# Altium schematic symbol library Interface.SchLib: 114 symbols (part 1 of 2)
Pins are listed as number, name and electrical type; pins without a type are passive.

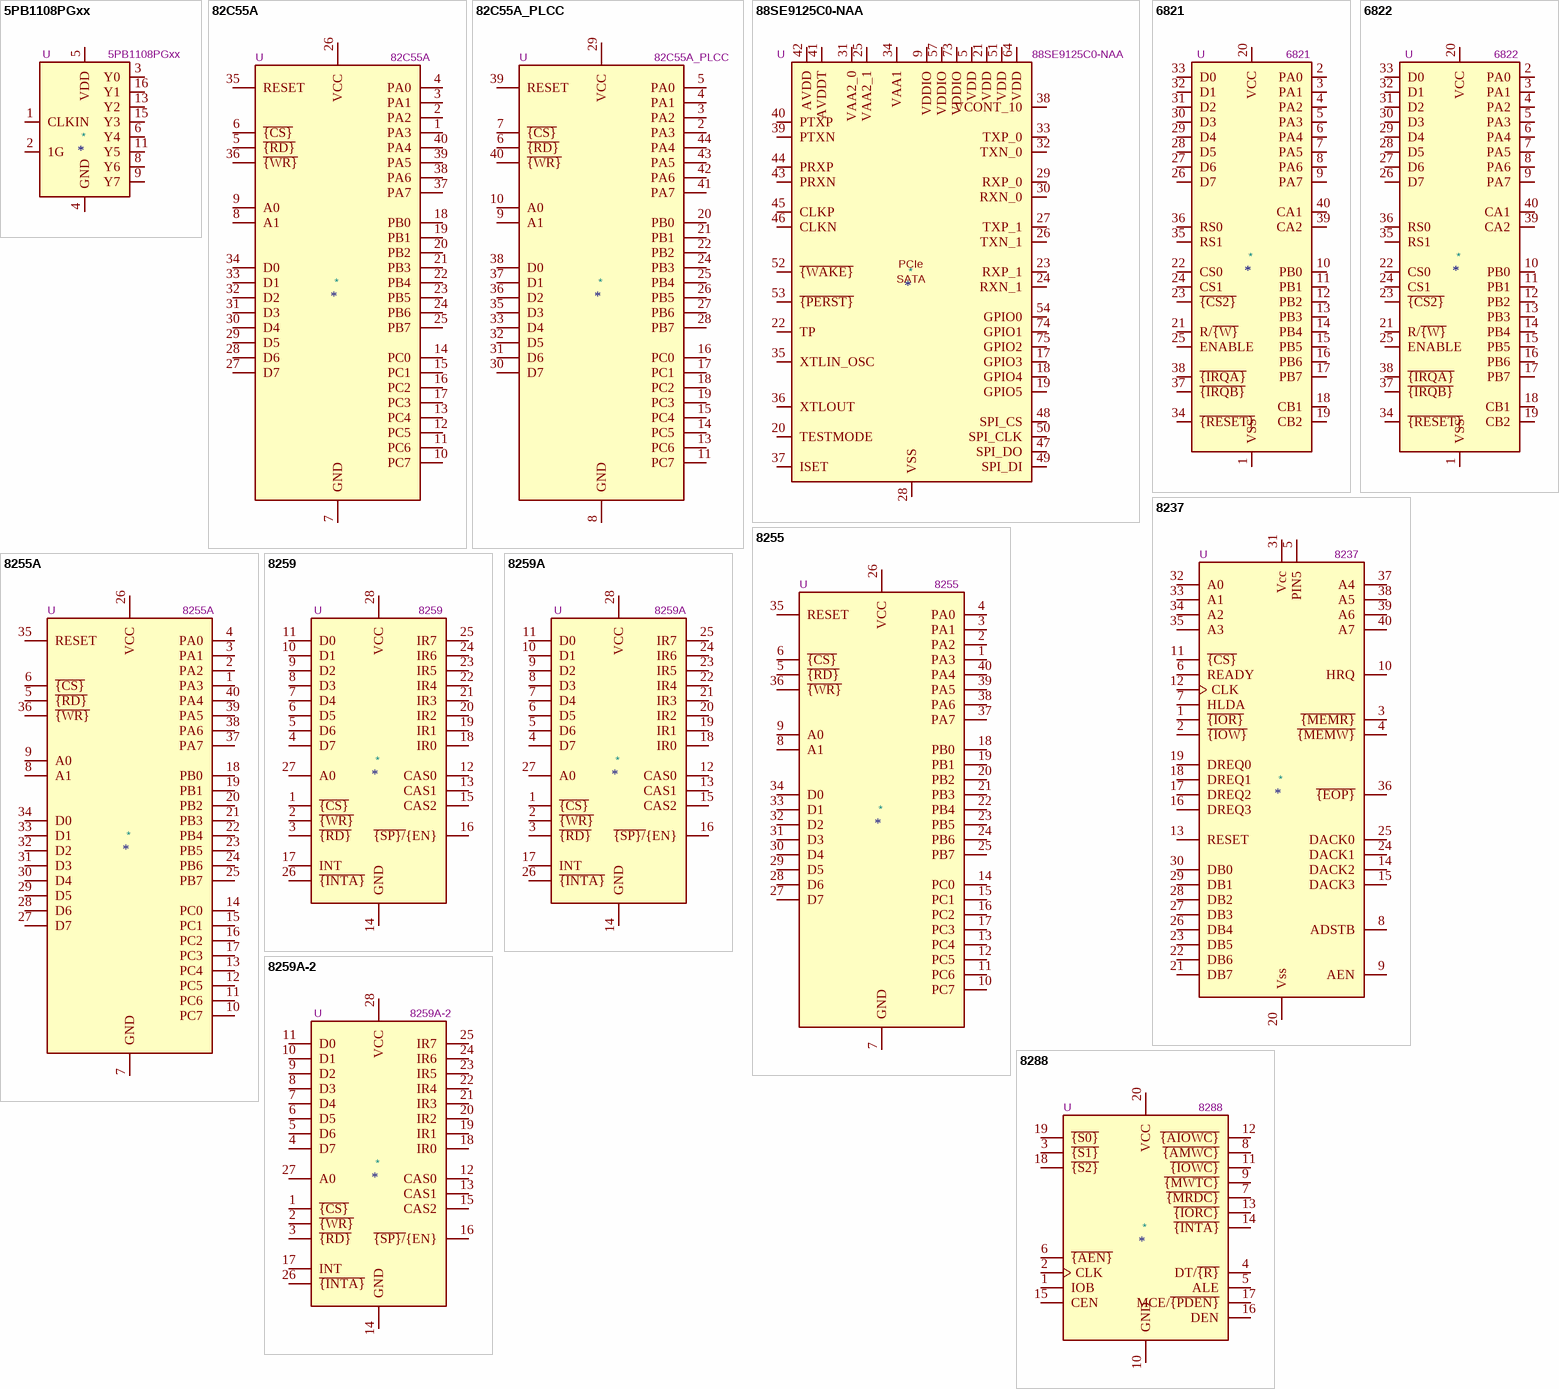
[diagram p0: symbols 5PB1108PGxx to 8288]

## 5PB1108PGxx
designator *  value 5PB1108PGxx  Reference: U
ki_keywords: clock buffer lvcmos; ki_description: 1:8 LVCMOS High-Performance Clock Buffer, 1.8V to 3.3V, TSSOP-16; ki_fp_filters: TSSOP*4.4x5mm*P0.65mm*; Footprint: Package_SO:TSSOP-16_4.4x5mm_P0.65mm; Datasheet: https://www.idt.com/document/dst/5pb11xx-datasheet
pins: 1 CLKIN, 2 1G, 3 Y0, 4 GND, 5 VDD, 6 Y4, 7 GND hidden, 8 Y6, 9 Y7, 10 VDD hidden, 11 Y5, 12 GND hidden, 13 Y2, 14 VDD hidden, 15 Y3, 16 Y1

## 82C55A
designator *  value 82C55A  Reference: U
ki_keywords: 8255 PPI; ki_description: CHMOS Programmable Peripheral Interface, PDIP-40; ki_fp_filters: DIP*W15.24mm* PDIP*W15.24mm*; Footprint: Package_DIP:DIP-40_W15.24mm; Datasheet: http://jap.hu/electronic/8255.pdf
pins: 1 PA3, 2 PA2, 3 PA1, 4 PA0, 5 ~{{RD}}, 6 ~{{CS}}, 7 GND, 8 A1, 9 A0, 10 PC7, 11 PC6, 12 PC5, 13 PC4, 14 PC0, 15 PC1, 16 PC2, 17 PC3, 18 PB0, 19 PB1, 20 PB2, 21 PB3, 22 PB4, 23 PB5, 24 PB6, 25 PB7, 26 VCC, 27 D7, 28 D6, 29 D5, 30 D4, 31 D3, 32 D2, 33 D1, 34 D0, 35 RESET, 36 ~{{WR}}, 37 PA7, 38 PA6, 39 PA5, 40 PA4

## 82C55A_PLCC
designator *  value 82C55A_PLCC  Reference: U
ki_keywords: 8255 PPI; ki_description: CHMOS Programmable Peripheral Interface, PLCC-44; ki_fp_filters: *PLCC?44*; Footprint: Package_LCC:PLCC-44; Datasheet: http://jap.hu/electronic/8255.pdf
pins: 1 NC hidden, 2 PA3, 3 PA2, 4 PA1, 5 PA0, 6 ~{{RD}}, 7 ~{{CS}}, 8 GND, 9 A1, 10 A0, 11 PC7, 12 NC hidden, 13 PC6, 14 PC5, 15 PC4, 16 PC0, 17 PC1, 18 PC2, 19 PC3, 20 PB0, 21 PB1, 22 PB2, 23 NC hidden, 24 PB3, 25 PB4, 26 PB5, 27 PB6, 28 PB7, 29 VCC, 30 D7, 31 D6, 32 D5, 33 D4, 34 NC hidden, 35 D3, 36 D2, 37 D1, 38 D0, 39 RESET, 40 ~{{WR}}, 41 PA7, 42 PA6, 43 PA5, 44 PA4

## 88SE9125C0-NAA
designator *  value 88SE9125C0-NAA  Reference: U
ki_keywords: PCIe2.0 SATA3.0; ki_description: One-Lane PCIe SATA Two-Ports Controller, QFN-76; ki_fp_filters: QFN*1EP*9x9mm*P0.4mm*; Footprint: Package_DFN_QFN:QFN-76-1EP_9x9mm_P0.4mm_EP3.8x3.8mm; Datasheet: https://www.marvell.com/documents/bqcwxsoiqfjkcjdjhkvc/
pins: 1 NC hidden, 2 NC hidden, 3 NC hidden, 4 NC hidden, 5 VDD, 6 NC hidden, 7 NC hidden, 8 NC hidden, 9 VDDIO, 10 NC hidden, 11 NC hidden, 12 NC hidden, 13 VDD hidden, 14 NC hidden, 15 NC hidden, 16 NC hidden, 17 GPIO3, 18 GPIO4, 19 GPIO5, 20 TESTMODE, 21 VDD, 22 TP, 23 RXP_1, 24 RXN_1, 25 VAA2_1, 26 TXN_1, 27 TXP_1, 28 VSS, 29 RXP_0, 30 RXN_0, 31 VAA2_0, 32 TXN_0, 33 TXP_0, 34 VAA1, 35 XTLIN_OSC, 36 XTLOUT, 37 ISET, 38 VCONT_10, 39 PTXN, 40 PTXP, 41 AVDDT, 42 AVDD, 43 PRXN, 44 PRXP, 45 CLKP, 46 CLKN, 47 SPI_DO, 48 SPI_CS, 49 SPI_DI, 50 SPI_CLK, 51 VDD, 52 ~{{WAKE}}, 53 ~{{PERST}}, 54 GPIO0, 55 NC hidden, 56 NC hidden, 57 VDDIO, 58 NC hidden, 59 NC hidden, 60 NC hidden, 61 NC hidden, 62 NC hidden, 63 NC hidden, 64 VDD, 65 NC hidden, 66 NC hidden, 67 NC hidden, 68 NC hidden, 69 NC hidden, 70 NC hidden, 71 VDD hidden, 72 NC hidden, 73 VDDIO, 74 GPIO1, 75 GPIO2, 76 NC hidden, 77 VSS hidden
text: PCIe; SATA

## 6821
designator *  value 6821  Reference: U
ki_keywords: PIA; ki_description: Peripheral Interface Adapter 1MHz, DIP-40; ki_fp_filters: DIP*W15.24mm*; Footprint: Package_DIP:DIP-40_W15.24mm; Datasheet: http://pdf.datasheetcatalog.com/datasheet/motorola/6821.pdf
pins: 1 VSS, 2 PA0, 3 PA1, 4 PA2, 5 PA3, 6 PA4, 7 PA5, 8 PA6, 9 PA7, 10 PB0, 11 PB1, 12 PB2, 13 PB3, 14 PB4, 15 PB5, 16 PB6, 17 PB7, 18 CB1, 19 CB2, 20 VCC, 21 R/~{{W}}, 22 CS0, 23 ~{{CS2}}, 24 CS1, 25 ENABLE, 26 D7, 27 D6, 28 D5, 29 D4, 30 D3, 31 D2, 32 D1, 33 D0, 34 ~{{RESET}}, 35 RS1, 36 RS0, 37 ~{{IRQB}}, 38 ~{{IRQA}}, 39 CA2, 40 CA1

## 6822
designator *  value 6822  Reference: U
ki_keywords: PIA; ki_description: Peripheral Interface Adapter 1MHz, DIP-40; ki_fp_filters: DIP*W15.24mm*; Footprint: Package_DIP:DIP-40_W15.24mm; Datasheet: http://pdf1.alldatasheet.com/datasheet-pdf/view/135452/MOTOROLA/MC6822.html
pins: 1 VSS, 2 PA0, 3 PA1, 4 PA2, 5 PA3, 6 PA4, 7 PA5, 8 PA6, 9 PA7, 10 PB0, 11 PB1, 12 PB2, 13 PB3, 14 PB4, 15 PB5, 16 PB6, 17 PB7, 18 CB1, 19 CB2, 20 VCC, 21 R/~{{W}}, 22 CS0, 23 ~{{CS2}}, 24 CS1, 25 ENABLE, 26 D7, 27 D6, 28 D5, 29 D4, 30 D3, 31 D2, 32 D1, 33 D0, 34 ~{{RESET}}, 35 RS1, 36 RS0, 37 ~{{IRQB}}, 38 ~{{IRQA}}, 39 CA2, 40 CA1

## 8237
designator *  value 8237  Reference: U
ki_keywords: 8237 DMA; ki_description: Programmable DMA Controller, PDIP-40; ki_fp_filters: DIP*W15.24mm* PDIP*W15.24mm*; Footprint: Package_DIP:DIP-40_W15.24mm; Datasheet: https://pdos.csail.mit.edu/6.828/2012/readings/hardware/8237A.pdf
pins: 1 ~{{IOR}}, 2 ~{{IOW}}, 3 ~{{MEMR}}, 4 ~{{MEMW}}, 5 PIN5, 6 READY, 7 HLDA, 8 ADSTB, 9 AEN, 10 HRQ, 11 ~{{CS}}, 12 CLK, 13 RESET, 14 DACK2, 15 DACK3, 16 DREQ3, 17 DREQ2, 18 DREQ1, 19 DREQ0, 20 Vss, 21 DB7, 22 DB6, 23 DB5, 24 DACK1, 25 DACK0, 26 DB4, 27 DB3, 28 DB2, 29 DB1, 30 DB0, 31 Vcc, 32 A0, 33 A1, 34 A2, 35 A3, 36 ~{{EOP}}, 37 A4, 38 A5, 39 A6, 40 A7

## 8255
designator *  value 8255  Reference: U
ki_keywords: 8255 PPI; ki_description: Programmable Peripheral Interface, PDIP-40; ki_fp_filters: DIP*W15.24mm* PDIP*W15.24mm*; Footprint: Package_DIP:DIP-40_W15.24mm; Datasheet: http://aturing.umcs.maine.edu/~meadow/courses/cos335/Intel8255A.pdf
pins: 1 PA3, 2 PA2, 3 PA1, 4 PA0, 5 ~{{RD}}, 6 ~{{CS}}, 7 GND, 8 A1, 9 A0, 10 PC7, 11 PC6, 12 PC5, 13 PC4, 14 PC0, 15 PC1, 16 PC2, 17 PC3, 18 PB0, 19 PB1, 20 PB2, 21 PB3, 22 PB4, 23 PB5, 24 PB6, 25 PB7, 26 VCC, 27 D7, 28 D6, 29 D5, 30 D4, 31 D3, 32 D2, 33 D1, 34 D0, 35 RESET, 36 ~{{WR}}, 37 PA7, 38 PA6, 39 PA5, 40 PA4

## 8255A
designator *  value 8255A  Reference: U
ki_keywords: 8255 PPI; ki_description: Programmable Peripheral Interface, PDIP-40; ki_fp_filters: DIP*W15.24mm* PDIP*W15.24mm*; Footprint: Package_DIP:DIP-40_W15.24mm; Datasheet: http://aturing.umcs.maine.edu/~meadow/courses/cos335/Intel8255A.pdf
pins: 1 PA3, 2 PA2, 3 PA1, 4 PA0, 5 ~{{RD}}, 6 ~{{CS}}, 7 GND, 8 A1, 9 A0, 10 PC7, 11 PC6, 12 PC5, 13 PC4, 14 PC0, 15 PC1, 16 PC2, 17 PC3, 18 PB0, 19 PB1, 20 PB2, 21 PB3, 22 PB4, 23 PB5, 24 PB6, 25 PB7, 26 VCC, 27 D7, 28 D6, 29 D5, 30 D4, 31 D3, 32 D2, 33 D1, 34 D0, 35 RESET, 36 ~{{WR}}, 37 PA7, 38 PA6, 39 PA5, 40 PA4

## 8259
designator *  value 8259  Reference: U
ki_keywords: PIC; ki_description: 8259, Programmable Interrupt Controller, PDIP-28; ki_fp_filters: DIP*W15.24mm*; Footprint: Package_DIP:DIP-28_W15.24mm; Datasheet: http://pdos.csail.mit.edu/6.828/2005/readings/hardware/8259A.pdf
pins: 1 ~{{CS}}, 2 ~{{WR}}, 3 ~{{RD}}, 4 D7, 5 D6, 6 D5, 7 D4, 8 D3, 9 D2, 10 D1, 11 D0, 12 CAS0, 13 CAS1, 14 GND, 15 CAS2, 16 ~{{SP}/}{EN}, 17 INT, 18 IR0, 19 IR1, 20 IR2, 21 IR3, 22 IR4, 23 IR5, 24 IR6, 25 IR7, 26 ~{{INTA}}, 27 A0, 28 VCC

## 8259A
designator *  value 8259A  Reference: U
ki_keywords: PIC; ki_description: 8259, Programmable Interrupt Controller, PDIP-28; ki_fp_filters: DIP*W15.24mm*; Footprint: Package_DIP:DIP-28_W15.24mm; Datasheet: http://pdos.csail.mit.edu/6.828/2005/readings/hardware/8259A.pdf
pins: 1 ~{{CS}}, 2 ~{{WR}}, 3 ~{{RD}}, 4 D7, 5 D6, 6 D5, 7 D4, 8 D3, 9 D2, 10 D1, 11 D0, 12 CAS0, 13 CAS1, 14 GND, 15 CAS2, 16 ~{{SP}/}{EN}, 17 INT, 18 IR0, 19 IR1, 20 IR2, 21 IR3, 22 IR4, 23 IR5, 24 IR6, 25 IR7, 26 ~{{INTA}}, 27 A0, 28 VCC

## 8259A-2
designator *  value 8259A-2  Reference: U
ki_keywords: PIC; ki_description: 8259, Programmable Interrupt Controller, PDIP-28; ki_fp_filters: DIP*W15.24mm*; Footprint: Package_DIP:DIP-28_W15.24mm; Datasheet: http://pdos.csail.mit.edu/6.828/2005/readings/hardware/8259A.pdf
pins: 1 ~{{CS}}, 2 ~{{WR}}, 3 ~{{RD}}, 4 D7, 5 D6, 6 D5, 7 D4, 8 D3, 9 D2, 10 D1, 11 D0, 12 CAS0, 13 CAS1, 14 GND, 15 CAS2, 16 ~{{SP}/}{EN}, 17 INT, 18 IR0, 19 IR1, 20 IR2, 21 IR3, 22 IR4, 23 IR5, 24 IR6, 25 IR7, 26 ~{{INTA}}, 27 A0, 28 VCC

## 8288
designator *  value 8288  Reference: U
ki_keywords: Bus Controller; ki_description: Bus Controller for Intel 8086/8088/80186/80188 microprocessors, DIP-20; ki_fp_filters: DIP*W7.62mm*; Footprint: Package_DIP:DIP-20_W7.62mm; Datasheet: http://www.datasheets360.com/pdf/7208679415653955300
pins: 1 IOB, 2 CLK, 3 ~{{S1}}, 4 DT/~{{R}}, 5 ALE, 6 ~{{AEN}}, 7 ~{{MRDC}}, 8 ~{{AMWC}}, 9 ~{{MWTC}}, 10 GND, 11 ~{{IOWC}}, 12 ~{{AIOWC}}, 13 ~{{IORC}}, 14 ~{{INTA}}, 15 CEN, 16 DEN, 17 MCE/~{{PDEN}}, 18 ~{{S2}}, 19 ~{{S0}}, 20 VCC

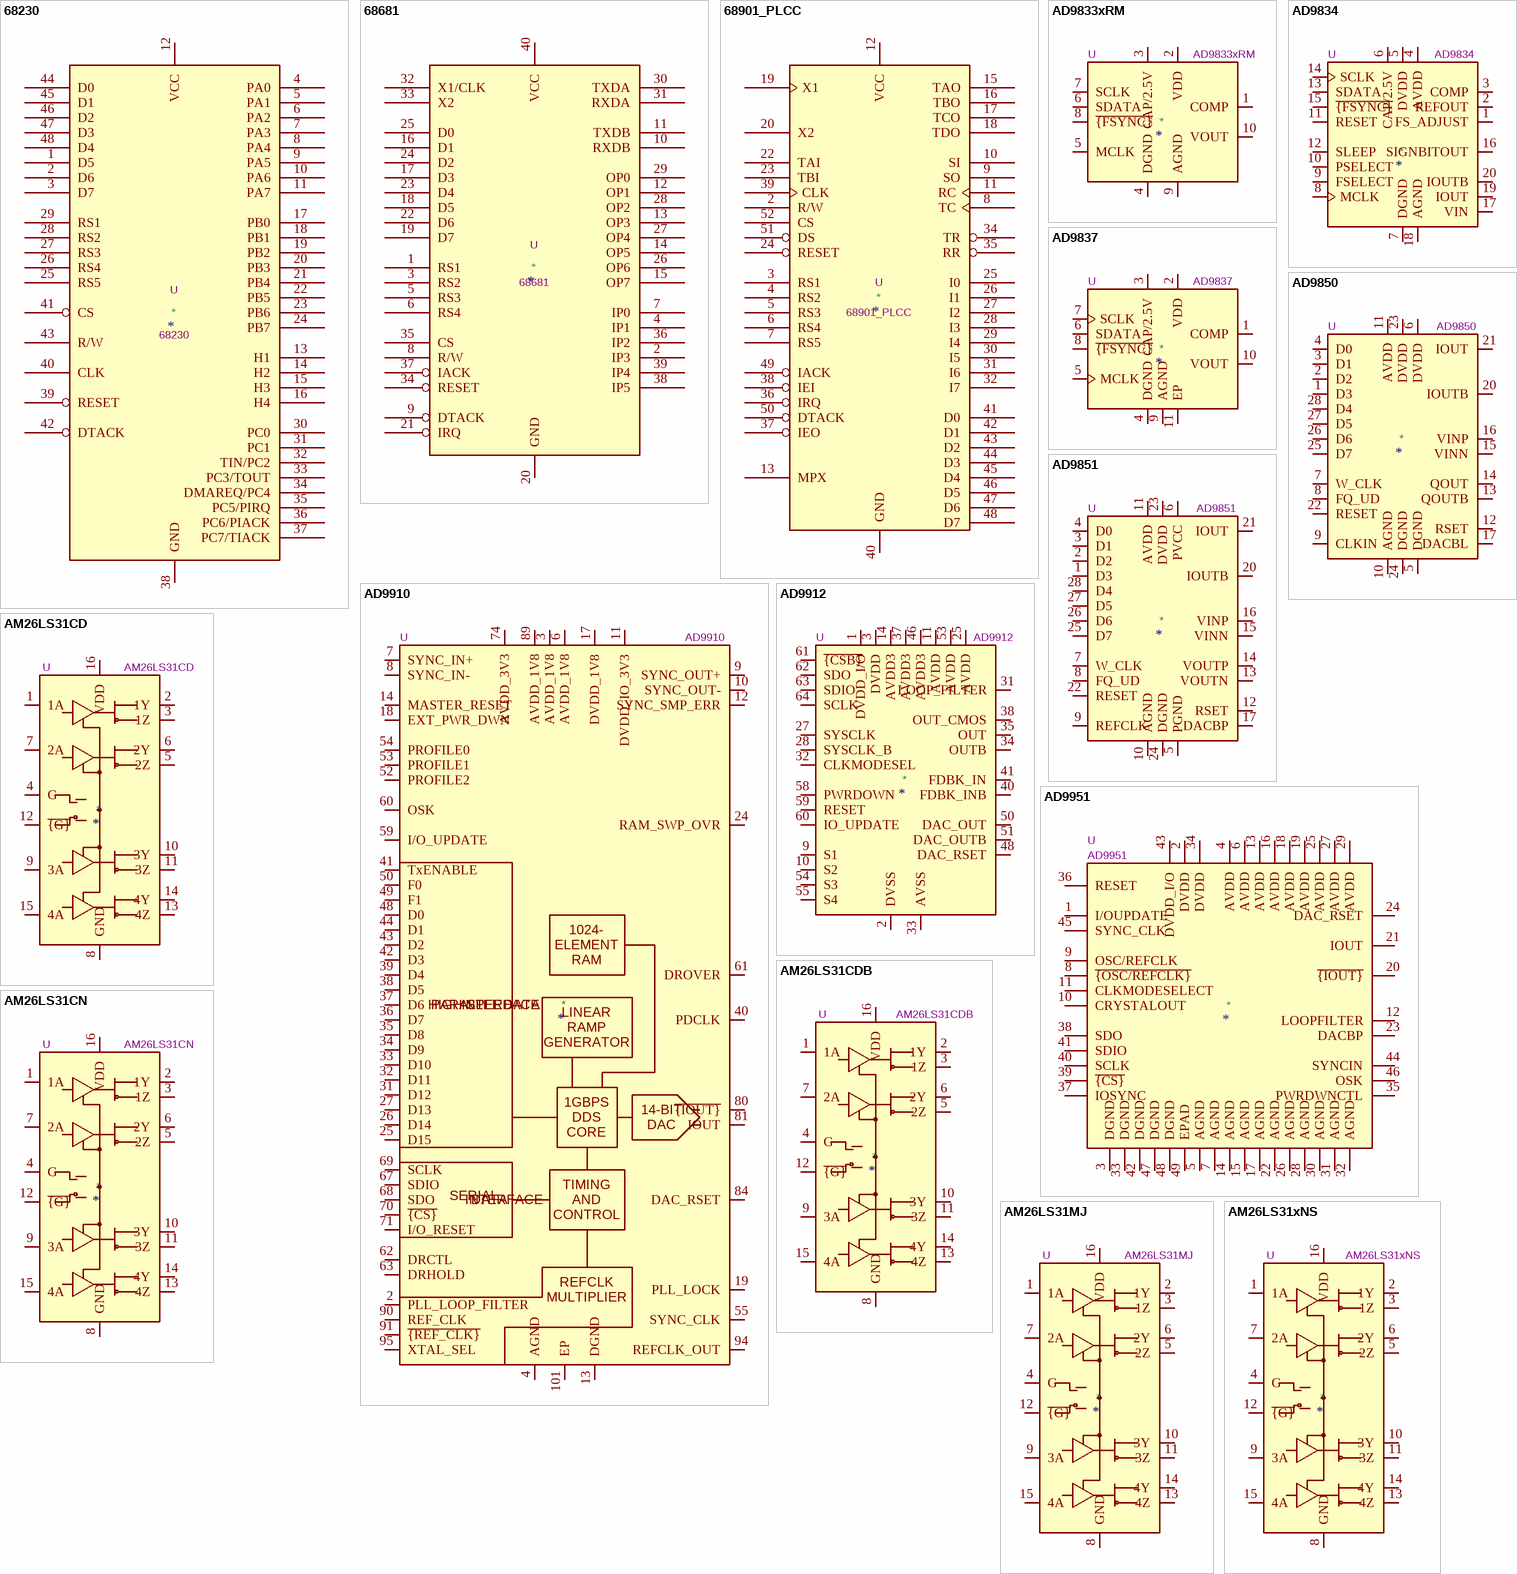
[diagram p1: symbols 68230 to AM26LS31xNS]

## 68230
designator *  value 68230  Reference: U
ki_keywords: MPRO; ki_description: PIT Interface parallele et Timer
pins: 1 D5, 2 D6, 3 D7, 4 PA0, 5 PA1, 6 PA2, 7 PA3, 8 PA4, 9 PA5, 10 PA6, 11 PA7, 12 VCC, 13 H1, 14 H2, 15 H3, 16 H4, 17 PB0, 18 PB1, 19 PB2, 20 PB3, 21 PB4, 22 PB5, 23 PB6, 24 PB7, 25 RS5, 26 RS4, 27 RS3, 28 RS2, 29 RS1, 30 PC0, 31 PC1, 32 TIN/PC2, 33 PC3/TOUT, 34 DMAREQ/PC4, 35 PC5/PIRQ, 36 PC6/PIACK, 37 PC7/TIACK, 38 GND, 39 RESET, 40 CLK, 41 CS, 42 DTACK, 43 R/W, 44 D0, 45 D1, 46 D2, 47 D3, 48 D4

## 68681
designator *  value 68681  Reference: U
ki_keywords: MPRO; ki_description: Interface serie 2 voies + 1 port parallele
pins: 1 RS1, 2 IP3, 3 RS2, 4 IP1, 5 RS3, 6 RS4, 7 IP0, 8 R/W, 9 DTACK, 10 RXDB, 11 TXDB, 12 OP1, 13 OP3, 14 OP5, 15 OP7, 16 D1, 17 D3, 18 D5, 19 D7, 20 GND, 21 IRQ, 22 D6, 23 D4, 24 D2, 25 D0, 26 OP6, 27 OP4, 28 OP2, 29 OP0, 30 TXDA, 31 RXDA, 32 X1/CLK, 33 X2, 34 RESET, 35 CS, 36 IP2, 37 IACK, 38 IP5, 39 IP4, 40 VCC

## 68901_PLCC
designator *  value 68901_PLCC  Reference: U
ki_keywords: MPRO; ki_description: Parallel Interface
pins: 2 R/W, 3 RS1, 4 RS2, 5 RS3, 6 RS4, 7 RS5, 8 TC, 9 SO, 10 SI, 11 RC, 12 VCC, 13 MPX, 15 TAO, 16 TBO, 17 TCO, 18 TDO, 19 X1, 20 X2, 22 TAI, 23 TBI, 24 RESET, 25 I0, 26 I1, 27 I2, 28 I3, 29 I4, 30 I5, 31 I6, 32 I7, 34 TR, 35 RR, 36 IRQ, 37 IEO, 38 IEI, 39 CLK, 40 GND, 41 D0, 42 D1, 43 D2, 44 D3, 45 D4, 46 D5, 47 D6, 48 D7, 49 IACK, 50 DTACK, 51 DS, 52 CS

## AD9833xRM
designator *  value AD9833xRM  Reference: U
ki_keywords: Direct Digital Synthesizer DDS; ki_description: 10 bit 25 MHz Programmable Waveform Generator, 2.3V to 5.5V, 12.65mW, MSOP-10; ki_fp_filters: MSOP*3x3mm*P0.5mm*; Footprint: Package_SO:MSOP-10_3x3mm_P0.5mm; Datasheet: https://www.analog.com/media/en/technical-documentation/data-sheets/ad9833.pdf
pins: 1 COMP, 2 VDD, 3 CAP/2.5V, 4 DGND, 5 MCLK, 6 SDATA, 7 SCLK, 8 ~{{FSYNC}}, 9 AGND, 10 VOUT

## AD9834
designator *  value AD9834  Reference: U
ki_keywords: Direct Digital Synthesizer DDS; ki_description: 10 bit 75 MHz Complete Direct Digital Synthesizer, 2.3V to 5.5V, 20mW, TSSOP-20; ki_fp_filters: TSSOP*4.4x6.5mm*P0.65mm*; Footprint: Package_SO:TSSOP-20_4.4x6.5mm_P0.65mm; Datasheet: https://www.analog.com/static/imported-files/data_sheets/AD9834.pdf
pins: 1 FS_ADJUST, 2 REFOUT, 3 COMP, 4 AVDD, 5 DVDD, 6 CAP/2.5V, 7 DGND, 8 MCLK, 9 FSELECT, 10 PSELECT, 11 RESET, 12 SLEEP, 13 SDATA, 14 SCLK, 15 ~{{FSYNC}}, 16 SIGNBITOUT, 17 VIN, 18 AGND, 19 IOUT, 20 IOUTB

## AD9837
designator *  value AD9837  Reference: U
ki_keywords: direct digital synthesizer DDS sine triangle triangular square function; ki_description: 10 bit 16 MHz Programmable Waveform Generator, 2.3V to 5.5V, 8.5mW, LFCSP-10; ki_fp_filters: LFCSP*3x3mm*P0.5mm*; Footprint: Package_CSP:LFCSP-WD-10-1EP_3x3mm_P0.5mm_EP1.64x2.38mm; Datasheet: https://www.analog.com/media/en/technical-documentation/data-sheets/AD9837.pdf
pins: 1 COMP, 2 VDD, 3 CAP/2.5V, 4 DGND, 5 MCLK, 6 SDATA, 7 SCLK, 8 ~{{FSYNC}}, 9 AGND, 10 VOUT, 11 EP

## AD9850
designator *  value AD9850  Reference: U
ki_keywords: DDS direct digital synthesizer; ki_description: CMOS, 125 MHz, Complete DDS Synthesizer, SSOP-28; ki_fp_filters: SSOP*5.3x10.2mm*P0.65mm*; Footprint: Package_SO:SSOP-28_5.3x10.2mm_P0.65mm; Datasheet: https://www.analog.com/media/en/technical-documentation/data-sheets/AD9850.pdf
pins: 1 D3, 2 D2, 3 D1, 4 D0, 5 DGND, 6 DVDD, 7 W_CLK, 8 FQ_UD, 9 CLKIN, 10 AGND, 11 AVDD, 12 RSET, 13 QOUTB, 14 QOUT, 15 VINN, 16 VINP, 17 DACBL, 18 AVDD hidden, 19 AGND hidden, 20 IOUTB, 21 IOUT, 22 RESET, 23 DVDD, 24 DGND, 25 D7, 26 D6, 27 D5, 28 D4

## AD9851
designator *  value AD9851  Reference: U
ki_keywords: DDS direct digital synthesizer; ki_description: CMOS, 180 MHz, DDS/DAC Synthesizer, SSOP-28; ki_fp_filters: SSOP*5.3x10.2mm*P0.65mm*; Footprint: Package_SO:SSOP-28_5.3x10.2mm_P0.65mm; Datasheet: https://www.analog.com/media/en/technical-documentation/data-sheets/AD9851.pdf
pins: 1 D3, 2 D2, 3 D1, 4 D0, 5 PGND, 6 PVCC, 7 W_CLK, 8 FQ_UD, 9 REFCLK, 10 AGND, 11 AVDD, 12 RSET, 13 VOUTN, 14 VOUTP, 15 VINN, 16 VINP, 17 DACBP, 18 AVDD hidden, 19 AGND hidden, 20 IOUTB, 21 IOUT, 22 RESET, 23 DVDD, 24 DGND, 25 D7, 26 D6, 27 D5, 28 D4

## AD9910
designator *  value AD9910  Reference: U
ki_keywords: dds direct digital synthesizer; ki_description: 1 GSPS, 14-Bit, 3.3V CMOS, Direct Digital Synthesizer, QFP-100; ki_fp_filters: TQFP*1EP*14x14mm*P0.5mm*; Footprint: Package_QFP:TQFP-100-1EP_14x14mm_P0.5mm_EP5x5mm; Datasheet: https://www.analog.com/media/en/technical-documentation/data-sheets/AD9910.pdf
pins: 1 NC hidden, 2 PLL_LOOP_FILTER, 3 AVDD_1V8, 4 AGND, 5 AGND hidden, 6 AVDD_1V8, 7 SYNC_IN+, 8 SYNC_IN-, 9 SYNC_OUT+, 10 SYNC_OUT-, 11 DVDD_IO_3V3, 12 SYNC_SMP_ERR, 13 DGND, 14 MASTER_RESET, 15 DVDD_IO_3V3 hidden, 16 DGND hidden, 17 DVDD_1V8, 18 EXT_PWR_DWN, 19 PLL_LOCK, 20 NC hidden, 21 DVDD_IO_3V3 hidden, 22 DGND hidden, 23 DVDD_1V8 hidden, 24 RAM_SWP_OVR, 25 D15, 26 D14, 27 D13, 28 DVDD_IO_3V3 hidden, 29 DGND hidden, 30 DVDD_1V8 hidden, 31 D12, 32 D11, 33 D10, 34 D9, 35 D8, 36 D7, 37 D6, 38 D5, 39 D4, 40 PDCLK, 41 TxENABLE, 42 D3, 43 D2, 44 D1, 45 DVDD_IO_3V3 hidden, 46 DGND hidden, 47 DVDD_1V8 hidden, 48 D0, 49 F1, 50 F0, 51 DGND hidden, 52 PROFILE2, 53 PROFILE1, 54 PROFILE0, 55 SYNC_CLK, 56 DVDD_IO_3V3 hidden, 57 DVDD_1V8 hidden, 58 DGND hidden, 59 I/O_UPDATE, 60 OSK, 61 DROVER, 62 DRCTL, 63 DRHOLD, 64 DVDD_1V8 hidden, 65 DGND hidden, 66 DVDD_IO_3V3 hidden, 67 SDIO, 68 SDO, 69 SCLK, 70 ~{{CS}}, 71 I/O_RESET, 72 NC hidden, 73 AGND hidden, 74 AVDD_3V3, 75 AVDD_3V3 hidden, 76 AVDD_3V3 hidden, 77 AVDD_3V3 hidden, 78 AGND hidden, 79 AGND hidden, 80 ~{{IOUT}}, 81 IOUT, 82 AGND hidden, 83 AVDD_3V3 hidden, 84 DAC_RSET, 85 AGND hidden, 86 NC hidden, 87 NC hidden, 88 AGND hidden, 89 AVDD_1V8, 90 REF_CLK, 91 ~{{REF_CLK}}, 92 AVDD_1V8 hidden, 93 NC hidden, 94 REFCLK_OUT, 95 XTAL_SEL, 96 AGND hidden, 97 NC hidden, 98 NC hidden, 99 NC hidden, 100 NC hidden, 101 EP
text: 1024-; ELEMENT; RAM; HIGH SPEED; PARALLEL DATA; INTERFACE; LINEAR; RAMP; GENERATOR; 1GBPS; 14-BIT; DDS; DAC; CORE; TIMING; SERIAL; DATA; AND; CONTROL; REFCLK; MULTIPLIER

## AD9912
designator *  value AD9912  Reference: U
ki_keywords: Direct Digital Synthesizer DDS; ki_description: 1 GSPS, 14-bit DAC, Direct Digital Synthesizer, LFCSP-64; ki_fp_filters: LFCSP*1EP*9x9mm*P0.5mm*; Footprint: Package_CSP:LFCSP-64-1EP_9x9mm_P0.5mm_EP5.21x5.21mm; Datasheet: https://www.analog.com/media/en/technical-documentation/data-sheets/ad9912.pdf
pins: 1 DVDD_I/O, 2 DVSS, 3 DVDD, 4 DVSS hidden, 5 DVDD hidden, 6 DVSS hidden, 7 DVDD hidden, 8 DVSS hidden, 9 S1, 10 S2, 11 AVDD, 12 NC hidden, 13 NC hidden, 14 AVDD3, 15 NC hidden, 16 NC hidden, 17 NC hidden, 18 NC hidden, 19 AVDD hidden, 20 NC hidden, 21 NC hidden, 22 NC hidden, 23 AVDD hidden, 24 AVDD hidden, 25 AVDD, 26 AVDD hidden, 27 SYSCLK, 28 SYSCLK_B, 29 AVDD hidden, 30 AVDD hidden, 31 LOOP_FILTER, 32 CLKMODESEL, 33 AVSS, 34 OUTB, 35 OUT, 36 AVDD hidden, 37 AVDD3, 38 OUT_CMOS, 39 AVSS hidden, 40 FDBK_INB, 41 FDBK_IN, 42 AVDD hidden, 43 AVSS hidden, 44 AVDD hidden, 45 AVDD hidden, 46 AVDD3, 47 AVDD3 hidden, 48 DAC_RSET, 49 AVDD3 hidden, 50 DAC_OUT, 51 DAC_OUTB, 52 AVSS hidden, 53 AVDD, 54 S3, 55 S4, 56 DVSS hidden, 57 DVSS hidden, 58 PWRDOWN, 59 RESET, 60 IO_UPDATE, 61 ~{{CSB}}, 62 SDO, 63 SDIO, 64 SCLK, 65 AVSS hidden

## AD9951
designator *  value AD9951  Reference: U
ki_keywords: Direct Digital Synthesizer DDS; ki_description: 14-Bit Direct Digital Synthesizer with 400MSPS DAC, 1.8V, TQFP48; ki_fp_filters: TQFP*1EP*7x7mm*P0.5mm*; Footprint: Package_QFP:TQFP-48-1EP_7x7mm_P0.5mm_EP3.5x3.5mm; Datasheet: https://www.analog.com/static/imported-files/data_sheets/AD9951.pdf
pins: 1 I/OUPDATE, 2 DVDD, 3 DGND, 4 AVDD, 5 AGND, 6 AVDD, 7 AGND, 8 ~{{OSC/REFCLK}}, 9 OSC/REFCLK, 10 CRYSTALOUT, 11 CLKMODESELECT, 12 LOOPFILTER, 13 AVDD, 14 AGND, 15 AGND, 16 AVDD, 17 AGND, 18 AVDD, 19 AVDD, 20 ~{{IOUT}}, 21 IOUT, 22 AGND, 23 DACBP, 24 DAC_RSET, 25 AVDD, 26 AGND, 27 AVDD, 28 AGND, 29 AVDD, 30 AGND, 31 AGND, 32 AGND, 33 DGND, 34 DVDD, 35 PWRDWNCTL, 36 RESET, 37 IOSYNC, 38 SDO, 39 ~{{CS}}, 40 SCLK, 41 SDIO, 42 DGND, 43 DVDD_I/O, 44 SYNCIN, 45 SYNC_CLK, 46 OSK, 47 DGND, 48 DGND, 49 EPAD

## AM26LS31CD
designator *  value AM26LS31CD  Reference: U
ki_keywords: driver rs485 rs422 differential; ki_description: 32Mbps 3.3V RS485 Quad Line Drivers, SOIC-16; ki_fp_filters: SOIC*3.9x9.9mm*P1.27mm*; Footprint: Package_SO:SOIC-16_3.9x9.9mm_P1.27mm; Datasheet: https://www.ti.com/lit/ds/symlink/am26ls31.pdf
pins: 1 1A, 2 1Y, 3 1Z, 4 G, 5 2Z, 6 2Y, 7 2A, 8 GND, 9 3A, 10 3Y, 11 3Z, 12 ~{{G}}, 13 4Z, 14 4Y, 15 4A, 16 VDD

## AM26LS31CDB
designator *  value AM26LS31CDB  Reference: U
ki_keywords: driver rs485 rs422 differential; ki_description: 32Mbps 3.3V RS485 Quad Line Drivers, SSOP-16; ki_fp_filters: SSOP*5.3x6.2mm*P0.65mm*; Footprint: Package_SO:SSOP-16_5.3x6.2mm_P0.65mm; Datasheet: https://www.ti.com/lit/ds/symlink/am26ls31.pdf
pins: 1 1A, 2 1Y, 3 1Z, 4 G, 5 2Z, 6 2Y, 7 2A, 8 GND, 9 3A, 10 3Y, 11 3Z, 12 ~{{G}}, 13 4Z, 14 4Y, 15 4A, 16 VDD

## AM26LS31CN
designator *  value AM26LS31CN  Reference: U
ki_keywords: driver rs485 rs422 differential; ki_description: 32Mbps 3.3V RS485 Quad Line Drivers, DIP-16; ki_fp_filters: DIP*W7.62mm*; Footprint: Package_DIP:DIP-16_W7.62mm; Datasheet: https://www.ti.com/lit/ds/symlink/am26ls31.pdf
pins: 1 1A, 2 1Y, 3 1Z, 4 G, 5 2Z, 6 2Y, 7 2A, 8 GND, 9 3A, 10 3Y, 11 3Z, 12 ~{{G}}, 13 4Z, 14 4Y, 15 4A, 16 VDD

## AM26LS31MJ
designator *  value AM26LS31MJ  Reference: U
ki_keywords: driver rs485 rs422 differential; ki_description: 32Mbps 3.3V RS485 Quad Line Drivers, DIP-16; ki_fp_filters: DIP*W7.62mm*; Footprint: Package_DIP:DIP-16_W7.62mm; Datasheet: https://www.ti.com/lit/ds/symlink/am26ls31.pdf
pins: 1 1A, 2 1Y, 3 1Z, 4 G, 5 2Z, 6 2Y, 7 2A, 8 GND, 9 3A, 10 3Y, 11 3Z, 12 ~{{G}}, 13 4Z, 14 4Y, 15 4A, 16 VDD

## AM26LS31xNS
designator *  value AM26LS31xNS  Reference: U
ki_keywords: driver rs485 rs422 differential; ki_description: 32Mbps 3.3V RS485 Quad Line Drivers, SO-16; ki_fp_filters: SO*5.3x10.2mm*P1.27mm*; Footprint: Package_SO:SO-16_5.3x10.2mm_P1.27mm; Datasheet: https://www.ti.com/lit/ds/symlink/am26ls31.pdf
pins: 1 1A, 2 1Y, 3 1Z, 4 G, 5 2Z, 6 2Y, 7 2A, 8 GND, 9 3A, 10 3Y, 11 3Z, 12 ~{{G}}, 13 4Z, 14 4Y, 15 4A, 16 VDD

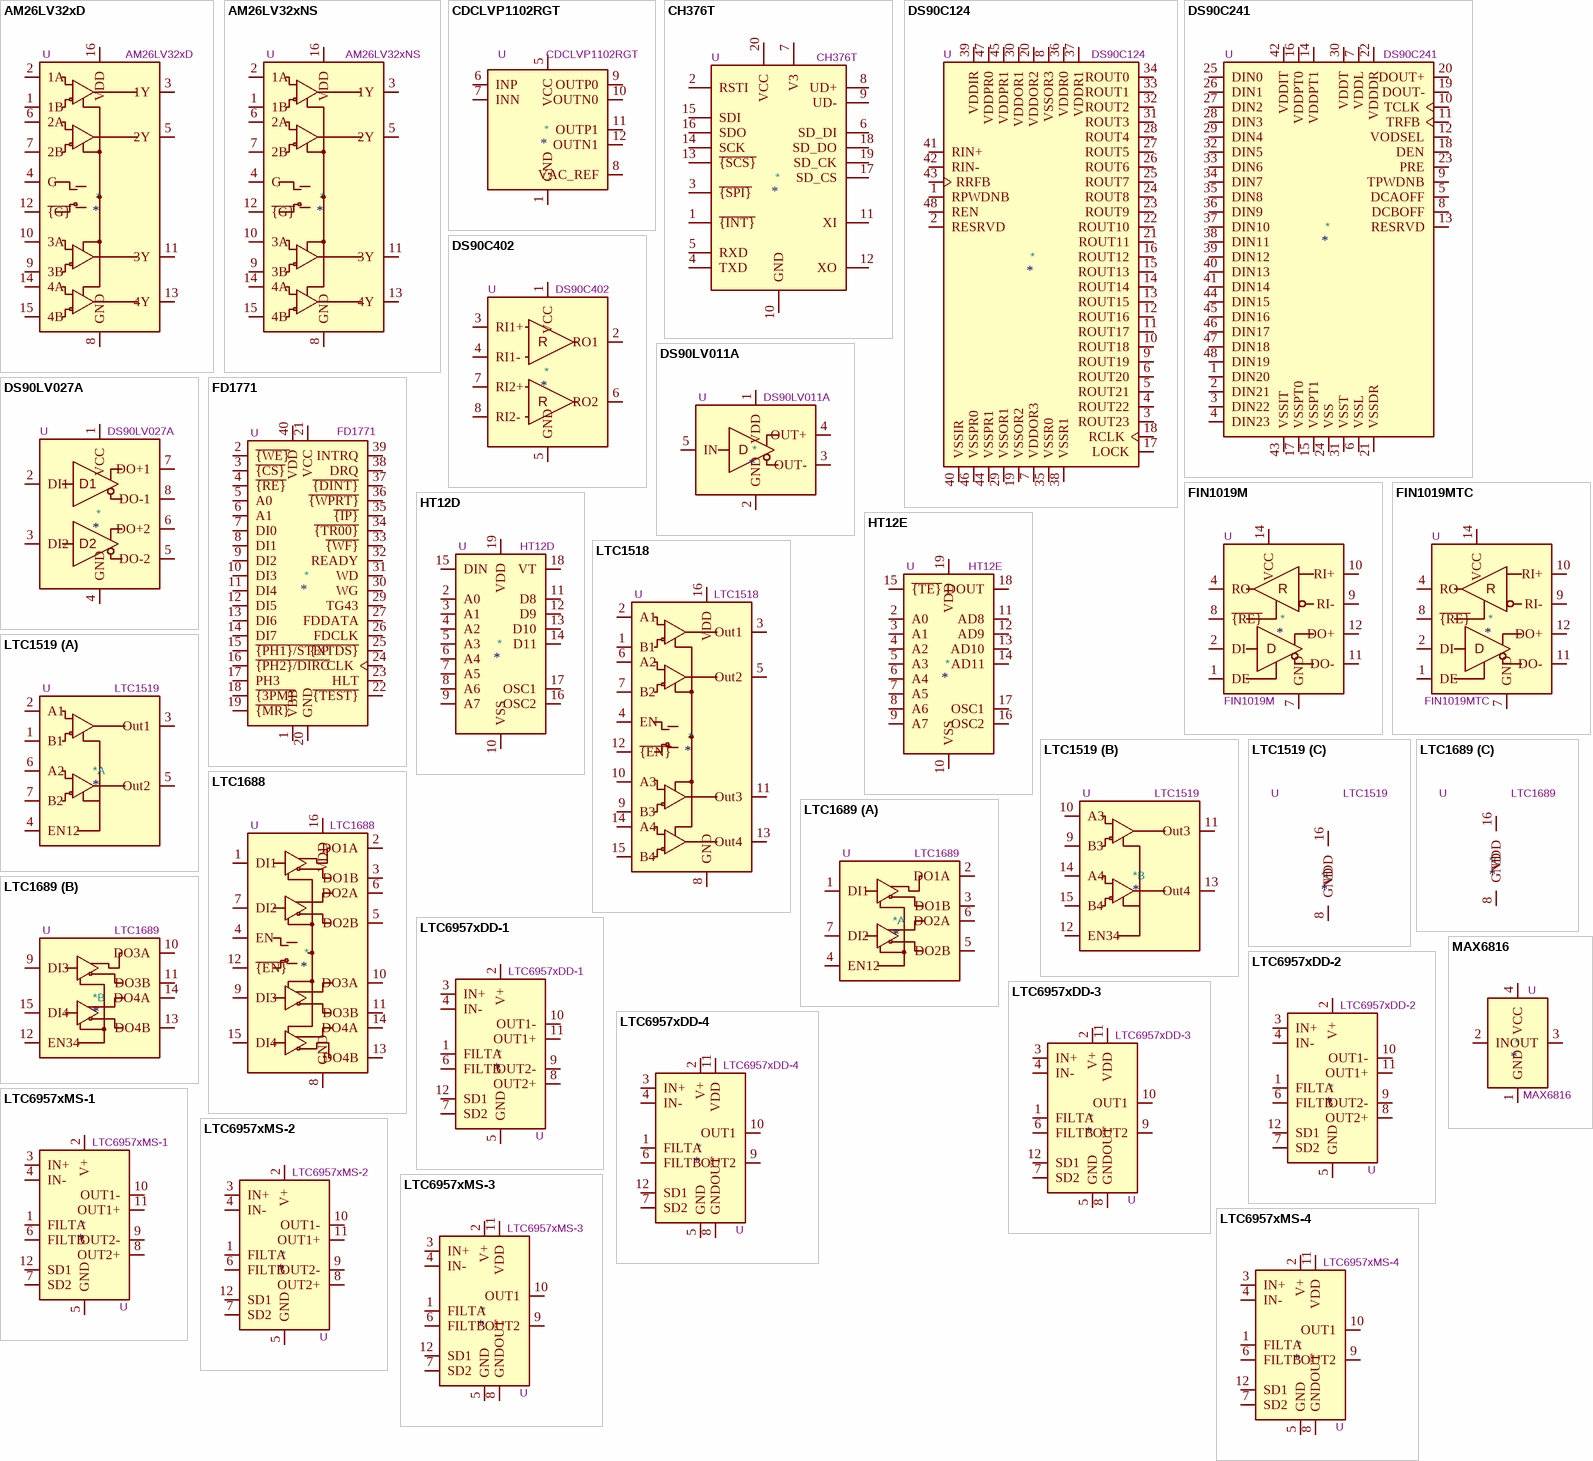
[diagram p2: symbols AM26LV32xD to MAX6816]

## AM26LV32xD
designator *  value AM26LV32xD  Reference: U
ki_keywords: receiver rs485 rs422 differential; ki_description: 32Mbps 3.3V RS485 Quad Line Receivers, SOIC-16; ki_fp_filters: SOIC*3.9x9.9mm*P1.27mm*; Footprint: Package_SO:SOIC-16_3.9x9.9mm_P1.27mm; Datasheet: http://www.ti.com/lit/ds/symlink/am26lv32.pdf
pins: 1 1B, 2 1A, 3 1Y, 4 G, 5 2Y, 6 2A, 7 2B, 8 GND, 9 3B, 10 3A, 11 3Y, 12 ~{{G}}, 13 4Y, 14 4A, 15 4B, 16 VDD

## AM26LV32xNS
designator *  value AM26LV32xNS  Reference: U
ki_keywords: receiver rs485 rs422 differential; ki_description: 32Mbps 3.3V RS485 Quad Line Receivers, SO-16; ki_fp_filters: SOIC*5.3x10.2mm*P1.27mm*; Footprint: Package_SO:SOIC-16W_5.3x10.2mm_P1.27mm; Datasheet: http://www.ti.com/lit/ds/symlink/am26lv32.pdf
pins: 1 1B, 2 1A, 3 1Y, 4 G, 5 2Y, 6 2A, 7 2B, 8 GND, 9 3B, 10 3A, 11 3Y, 12 ~{{G}}, 13 4Y, 14 4A, 15 4B, 16 VDD

## CDCLVP1102RGT
designator *  value CDCLVP1102RGT  Reference: U
ki_keywords: Clock Buffer LVDS; ki_description: Two-LVPECL Output, High-Performance Clock Buffer, VQFN-16; ki_fp_filters: VQFN*1EP*3x3mm*P0.5mm*; Footprint: Package_DFN_QFN:VQFN-16-1EP_3x3mm_P0.5mm_EP1.6x1.6mm_ThermalVias; Datasheet: http://www.ti.com/lit/ds/symlink/cdclvp1102.pdf
pins: 1 GND, 2 NC hidden, 3 NC hidden, 4 NC hidden, 5 VCC, 6 INP, 7 INN, 8 VAC_REF, 9 OUTP0, 10 OUTN0, 11 OUTP1, 12 OUTN1, 13 NC hidden, 14 NC hidden, 15 NC hidden, 16 GND hidden, 17 GND hidden

## CH376T
designator *  value CH376T  Reference: U
ki_keywords: USB Mass-Storage SD Card Interface; ki_description: File Management USB Flash Card SD Interface, SSOP-20; ki_fp_filters: SSOP*5.3x7.2mm*P0.65mm*; Footprint: Package_SO:SSOP-20_5.3x7.2mm_P0.65mm; Datasheet: https://www.mpja.com/download/ch376ds1.pdf
pins: 1 ~{{INT}}, 2 RSTI, 3 ~{{SPI}}, 4 TXD, 5 RXD, 6 SD_DI, 7 V3, 8 UD+, 9 UD-, 10 GND, 11 XI, 12 XO, 13 ~{{SCS}}, 14 SCK, 15 SDI, 16 SDO, 17 SD_CS, 18 SD_DO, 19 SD_CK, 20 VCC

## DS90C124
designator *  value DS90C124  Reference: U
ki_keywords: DC-Balanced 24-Bit FPD-Link II Deserializer; ki_description: DC-Balanced 24-Bit FPD-Link II Deserializer, TQFP-48; ki_fp_filters: TQFP*7x7mm*P0.5mm*; Footprint: Package_QFP:TQFP-48_7x7mm_P0.5mm; Datasheet: http://www.ti.com/lit/ds/symlink/ds90c241.pdf
pins: 1 RPWDNB, 2 RESRVD, 3 ROUT23, 4 ROUT22, 5 ROUT21, 6 ROUT20, 7 VDDOR3, 8 VSSOR3, 9 ROUT19, 10 ROUT18, 11 ROUT17, 12 ROUT16, 13 ROUT15, 14 ROUT14, 15 ROUT13, 16 ROUT12, 17 LOCK, 18 RCLK, 19 VSSOR2, 20 VDDOR2, 21 ROUT11, 22 ROUT10, 23 ROUT9, 24 ROUT8, 25 ROUT7, 26 ROUT6, 27 ROUT5, 28 ROUT4, 29 VSSOR1, 30 VDDOR1, 31 ROUT3, 32 ROUT2, 33 ROUT1, 34 ROUT0, 35 VSSR0, 36 VDDR0, 37 VDDR1, 38 VSSR1, 39 VDDIR, 40 VSSIR, 41 RIN+, 42 RIN-, 43 RRFB, 44 VSSPR1, 45 VDDPR1, 46 VSSPR0, 47 VDDPR0, 48 REN

## DS90C241
designator *  value DS90C241  Reference: U
ki_keywords: DC-Balanced 24-Bit FPD-Link II Serializer; ki_description: DC-Balanced 24-Bit FPD-Link II Serializer, TQFP-48; ki_fp_filters: TQFP*7x7mm*P0.5mm*; Footprint: Package_QFP:TQFP-48_7x7mm_P0.5mm; Datasheet: http://www.ti.com/lit/ds/symlink/ds90c241.pdf
pins: 1 DIN20, 2 DIN21, 3 DIN22, 4 DIN23, 5 DCAOFF, 6 VSSL, 7 VDDL, 8 DCBOFF, 9 TPWDNB, 10 TCLK, 11 TRFB, 12 VODSEL, 13 RESRVD, 14 VDDPT1, 15 VSSPT1, 16 VDDPT0, 17 VSSPT0, 18 DEN, 19 DOUT-, 20 DOUT+, 21 VSSDR, 22 VDDDR, 23 PRE, 24 VSS, 25 DIN0, 26 DIN1, 27 DIN2, 28 DIN3, 29 DIN4, 30 VDDT, 31 VSST, 32 DIN5, 33 DIN6, 34 DIN7, 35 DIN8, 36 DIN9, 37 DIN10, 38 DIN11, 39 DIN12, 40 DIN13, 41 DIN14, 42 VDDIT, 43 VSSIT, 44 DIN15, 45 DIN16, 46 DIN17, 47 DIN18, 48 DIN19

## DS90C402
designator *  value DS90C402  Reference: U
ki_keywords: Dual LVDS Receiver; ki_description: Dual LVDS Receiver, >155Mbps, 5V, SOIC-8; ki_fp_filters: SOIC*3.9x4.9mm*P1.27mm*; Footprint: Package_SO:SOIC-8_3.9x4.9mm_P1.27mm; Datasheet: http://www.ti.com/lit/ds/symlink/ds90c402.pdf
pins: 1 VCC, 2 RO1, 3 RI1+, 4 RI1-, 5 GND, 6 RO2, 7 RI2+, 8 RI2-
text: R

## DS90LV011A
designator *  value DS90LV011A  Reference: U
ki_keywords: LVDS Driver; ki_description: LVDS Single High Speed Differential Driver, 400Mbps, SOT-23-5; ki_fp_filters: SOT?23*; Footprint: Package_TO_SOT_SMD:SOT-23-5; Datasheet: http://www.ti.com/lit/ds/symlink/ds90lv011a.pdf
pins: 1 VDD, 2 GND, 3 OUT-, 4 OUT+, 5 IN
text: D

## DS90LV027A
designator *  value DS90LV027A  Reference: U
ki_keywords: Dual LVDS Driver; ki_description: LVDS Dual High Speed Differential Driver, >600MBps, SOIC-8; ki_fp_filters: SOIC*3.9x4.9mm*P1.27mm*; Footprint: Package_SO:SOIC-8_3.9x4.9mm_P1.27mm; Datasheet: http://www.ti.com/lit/ds/symlink/ds90lv027a.pdf
pins: 1 VCC, 2 DI1, 3 DI2, 4 GND, 5 DO-2, 6 DO+2, 7 DO+1, 8 DO-1
text: D1; D2

## FD1771
designator *  value FD1771  Reference: U
ki_keywords: Floppy disk controller; ki_description: Floppy disk controller, DIP-40; ki_fp_filters: DIP*W15.24mm*; Footprint: Package_DIP:DIP-40_W15.24mm; Datasheet: https://amaus.net/static/S100/western%20digital/datasheet/Western%20Digital%20FD1771%20Specification%20197710.pdf
pins: 1 VBB, 2 ~{{WE}}, 3 ~{{CS}}, 4 ~{{RE}}, 5 A0, 6 A1, 7 DI0, 8 DI1, 9 DI2, 10 DI3, 11 DI4, 12 DI5, 13 DI6, 14 DI7, 15 ~{{PH1}/STEP}, 16 ~{{PH2}/DIRC}, 17 PH3, 18 ~{{3PM}}, 19 ~{{MR}}, 20 GND, 21 VCC, 22 ~{{TEST}}, 23 HLT, 24 CLK, 25 ~{{XTDS}}, 26 FDCLK, 27 FDDATA, 29 TG43, 30 WG, 31 WD, 32 READY, 33 ~{{WF}}, 34 ~{{TR00}}, 35 ~{{IP}}, 36 ~{{WPRT}}, 37 ~{{DINT}}, 38 DRQ, 39 INTRQ, 40 VDD

## FIN1019M
designator *  value FIN1019M  Reference: U
ki_keywords: lvds driver receiver; ki_description: 3.3V LVDS High Speed Differential Driver/Receiver, 400Mbps, SOIC-14; ki_fp_filters: SOIC*3.9x8.7mm*P1.27mm*; Footprint: Package_SO:SOIC-14_3.9x8.7mm_P1.27mm; Datasheet: http://www.onsemi.com/pub/Collateral/FIN1019-D.pdf
pins: 1 DE, 2 DI, 3 NC hidden, 4 RO, 5 NC hidden, 6 NC hidden, 7 GND, 8 ~{{RE}}, 9 RI-, 10 RI+, 11 DO-, 12 DO+, 13 NC hidden, 14 VCC
text: R; D

## FIN1019MTC
designator *  value FIN1019MTC  Reference: U
ki_keywords: lvds driver receiver; ki_description: 3.3V LVDS High Speed Differential Driver/Receiver, 400Mbps, TSSOP-14; ki_fp_filters: TSSOP*4.4x5mm*P0.65mm*; Footprint: Package_SO:TSSOP-14_4.4x5mm_P0.65mm; Datasheet: http://www.onsemi.com/pub/Collateral/FIN1019-D.pdf
pins: 1 DE, 2 DI, 3 NC hidden, 4 RO, 5 NC hidden, 6 NC hidden, 7 GND, 8 ~{{RE}}, 9 RI-, 10 RI+, 11 DO-, 12 DO+, 13 NC hidden, 14 VCC
text: R; D

## HT12D
designator *  value HT12D  Reference: U
ki_keywords: Serial Decoder; ki_description: 2^12 serial decoder, SOP-20; ki_fp_filters: SOP*7.5x12.8mm*P1.27mm*; Footprint: Package_SO:SOP-20_7.5x12.8mm_P1.27mm; Datasheet: https://www.holtek.com/documents/10179/116711/2_12dv120.pdf
pins: 1 NC hidden, 2 A0, 3 A1, 4 A2, 5 A3, 6 A4, 7 A5, 8 A6, 9 A7, 10 VSS, 11 D8, 12 D9, 13 D10, 14 D11, 15 DIN, 16 OSC2, 17 OSC1, 18 VT, 19 VDD, 20 NC hidden

## HT12E
designator *  value HT12E  Reference: U
ki_keywords: Serial Encoder; ki_description: 2^12 serial encoder, SOP-20; ki_fp_filters: SOP*7.5x12.8mm*P1.27mm*; Footprint: Package_SO:SOP-20_7.5x12.8mm_P1.27mm; Datasheet: https://www.holtek.com/documents/10179/116711/2_12ev120.pdf
pins: 1 NC hidden, 2 A0, 3 A1, 4 A2, 5 A3, 6 A4, 7 A5, 8 A6, 9 A7, 10 VSS, 11 AD8, 12 AD9, 13 AD10, 14 AD11, 15 ~{{TE}}, 16 OSC2, 17 OSC1, 18 DOUT, 19 VDD, 20 NC hidden

## LTC1518
designator *  value LTC1518  Reference: U
ki_keywords: receiver rs485 rs422 differential; ki_description: 52Mbps Precision Delay RS485 Quad Line Receivers; ki_fp_filters: SOIC*16*3.9x9.9mm*P1.27mm*; Footprint: Package_SO:SOIC-16_3.9x9.9mm_P1.27mm; Datasheet: https://www.analog.com/media/en/technical-documentation/data-sheets/15189fa.pdf
pins: 1 B1, 2 A1, 3 Out1, 4 EN, 5 Out2, 6 A2, 7 B2, 8 GND, 9 B3, 10 A3, 11 Out3, 12 ~{{EN}}, 13 Out4, 14 A4, 15 B4, 16 VDD

## LTC1519
designator *  value LTC1519  Reference: U
ki_keywords: receiver rs485 rs422 differential; ki_description: 52Mbps Precision Delay RS485 Quad Line Receivers; ki_fp_filters: SOIC*16*3.9x9.9mm*P1.27mm*; Footprint: Package_SO:SOIC-16_3.9x9.9mm_P1.27mm; Datasheet: https://www.analog.com/media/en/technical-documentation/data-sheets/15189fa.pdf
part A pins: 1 B1, 2 A1, 3 Out1, 4 EN12, 5 Out2, 6 A2, 7 B2
part B pins: 9 B3, 10 A3, 11 Out3, 12 EN34, 13 Out4, 14 A4, 15 B4
part C pins: 8 GND, 16 VDD
2 alternate drawings of the same symbol

## LTC1688
designator *  value LTC1688  Reference: U
ki_keywords: driver rs485 rs422 differential; ki_description: 100Mbps RS485 Hot Swapable Quad Drivers; ki_fp_filters: SOIC*16*3.9x9.9mm*P1.27mm*; Footprint: Package_SO:SOIC-16_3.9x9.9mm_P1.27mm; Datasheet: https://www.analog.com/media/en/technical-documentation/data-sheets/16889fa.pdf
pins: 1 DI1, 2 DO1A, 3 DO1B, 4 EN, 5 DO2B, 6 DO2A, 7 DI2, 8 GND, 9 DI3, 10 DO3A, 11 DO3B, 12 ~{{EN}}, 13 DO4B, 14 DO4A, 15 DI4, 16 VDD

## LTC1689
designator *  value LTC1689  Reference: U
ki_keywords: driver rs485 rs422 differential; ki_description: 100Mbps RS485 Hot Swapable Quad Drivers; ki_fp_filters: SOIC*16*3.9x9.9mm*P1.27mm*; Footprint: Package_SO:SOIC-16_3.9x9.9mm_P1.27mm; Datasheet: https://www.analog.com/media/en/technical-documentation/data-sheets/16889fa.pdf
part A pins: 1 DI1, 2 DO1A, 3 DO1B, 4 EN12, 5 DO2B, 6 DO2A, 7 DI2
part B pins: 9 DI3, 10 DO3A, 11 DO3B, 12 EN34, 13 DO4B, 14 DO4A, 15 DI4
part C pins: 8 GND, 16 VDD

## LTC6957xDD-1
designator *  value LTC6957xDD-1  Reference: U
ki_keywords: LTC clock converter; ki_description: Low Phase Noise, Dual Output Buffer/Driver/Logic Converter, LVPECL, DFN-12; ki_fp_filters: DFN*1EP*3x3mm*P0.45mm*; Footprint: Package_DFN_QFN:DFN-12-1EP_3x3mm_P0.45mm_EP1.66x2.38mm; Datasheet: https://www.analog.com/media/en/technical-documentation/data-sheets/6957fb.pdf
pins: 1 FILTA, 2 V+, 3 IN+, 4 IN-, 5 GND, 6 FILTB, 7 SD2, 8 OUT2+, 9 OUT2-, 10 OUT1-, 11 OUT1+, 12 SD1, 13 GND hidden

## LTC6957xDD-2
designator *  value LTC6957xDD-2  Reference: U
ki_keywords: LTC clock converter; ki_description: Low Phase Noise, Dual Output Buffer/Driver/Logic Converter, LVDS, DFN-12; ki_fp_filters: DFN*1EP*3x3mm*P0.45mm*; Footprint: Package_DFN_QFN:DFN-12-1EP_3x3mm_P0.45mm_EP1.66x2.38mm; Datasheet: https://www.analog.com/media/en/technical-documentation/data-sheets/6957fb.pdf
pins: 1 FILTA, 2 V+, 3 IN+, 4 IN-, 5 GND, 6 FILTB, 7 SD2, 8 OUT2+, 9 OUT2-, 10 OUT1-, 11 OUT1+, 12 SD1, 13 GND hidden

## LTC6957xDD-3
designator *  value LTC6957xDD-3  Reference: U
ki_keywords: LTC clock converter; ki_description: Low Phase Noise, Dual Output Buffer/Driver/Logic Converter, CMOS In-Phase Outputs, DFN-12; ki_fp_filters: DFN*1EP*3x3mm*P0.45mm*; Footprint: Package_DFN_QFN:DFN-12-1EP_3x3mm_P0.45mm_EP1.66x2.38mm; Datasheet: https://www.analog.com/media/en/technical-documentation/data-sheets/6957fb.pdf
pins: 1 FILTA, 2 V+, 3 IN+, 4 IN-, 5 GND, 6 FILTB, 7 SD2, 8 GNDOUT, 9 OUT2, 10 OUT1, 11 VDD, 12 SD1, 13 GND hidden

## LTC6957xDD-4
designator *  value LTC6957xDD-4  Reference: U
ki_keywords: LTC clock converter; ki_description: Low Phase Noise, Dual Output Buffer/Driver/Logic Converter, CMOS Complementary Outputs, DFN-12; ki_fp_filters: DFN*1EP*3x3mm*P0.45mm*; Footprint: Package_DFN_QFN:DFN-12-1EP_3x3mm_P0.45mm_EP1.66x2.38mm; Datasheet: https://www.analog.com/media/en/technical-documentation/data-sheets/6957fb.pdf
pins: 1 FILTA, 2 V+, 3 IN+, 4 IN-, 5 GND, 6 FILTB, 7 SD2, 8 GNDOUT, 9 OUT2, 10 OUT1, 11 VDD, 12 SD1, 13 GND hidden

## LTC6957xMS-1
designator *  value LTC6957xMS-1  Reference: U
ki_keywords: LTC clock converter; ki_description: Low Phase Noise, Dual Output Buffer/Driver/Logic Converter, LVPECL, MSOP-12; ki_fp_filters: MSOP*3x4mm*P0.65mm*; Footprint: Package_SO:MSOP-12_3x4mm_P0.65mm; Datasheet: https://www.analog.com/media/en/technical-documentation/data-sheets/6957fb.pdf
pins: 1 FILTA, 2 V+, 3 IN+, 4 IN-, 5 GND, 6 FILTB, 7 SD2, 8 OUT2+, 9 OUT2-, 10 OUT1-, 11 OUT1+, 12 SD1

## LTC6957xMS-2
designator *  value LTC6957xMS-2  Reference: U
ki_keywords: LTC clock converter; ki_description: Low Phase Noise, Dual Output Buffer/Driver/Logic Converter, LVDS, MSOP-12; ki_fp_filters: MSOP*3x4mm*P0.65mm*; Footprint: Package_SO:MSOP-12_3x4mm_P0.65mm; Datasheet: https://www.analog.com/media/en/technical-documentation/data-sheets/6957fb.pdf
pins: 1 FILTA, 2 V+, 3 IN+, 4 IN-, 5 GND, 6 FILTB, 7 SD2, 8 OUT2+, 9 OUT2-, 10 OUT1-, 11 OUT1+, 12 SD1

## LTC6957xMS-3
designator *  value LTC6957xMS-3  Reference: U
ki_keywords: LTC clock converter; ki_description: Low Phase Noise, Dual Output Buffer/Driver/Logic Converter, CMOS In-Phase Outputs, MSOP-12; ki_fp_filters: MSOP*3x4mm*P0.65mm*; Footprint: Package_SO:MSOP-12_3x4mm_P0.65mm; Datasheet: https://www.analog.com/media/en/technical-documentation/data-sheets/6957fb.pdf
pins: 1 FILTA, 2 V+, 3 IN+, 4 IN-, 5 GND, 6 FILTB, 7 SD2, 8 GNDOUT, 9 OUT2, 10 OUT1, 11 VDD, 12 SD1

## LTC6957xMS-4
designator *  value LTC6957xMS-4  Reference: U
ki_keywords: LTC clock converter; ki_description: Low Phase Noise, Dual Output Buffer/Driver/Logic Converter, CMOS Complementary Outputs, MSOP-12; ki_fp_filters: MSOP*3x4mm*P0.65mm*; Footprint: Package_SO:MSOP-12_3x4mm_P0.65mm; Datasheet: https://www.analog.com/media/en/technical-documentation/data-sheets/6957fb.pdf
pins: 1 FILTA, 2 V+, 3 IN+, 4 IN-, 5 GND, 6 FILTB, 7 SD2, 8 GNDOUT, 9 OUT2, 10 OUT1, 11 VDD, 12 SD1

## MAX6816
designator *  value MAX6816  Reference: U
ki_keywords: Switch Debouncer; ki_description: Single Switch  Debouncer, SOT-143; ki_fp_filters: SOT*143*; Footprint: Package_TO_SOT_SMD:SOT-143; Datasheet: https://datasheets.maximintegrated.com/en/ds/1896.pdf
pins: 1 GND, 2 IN, 3 OUT, 4 VCC

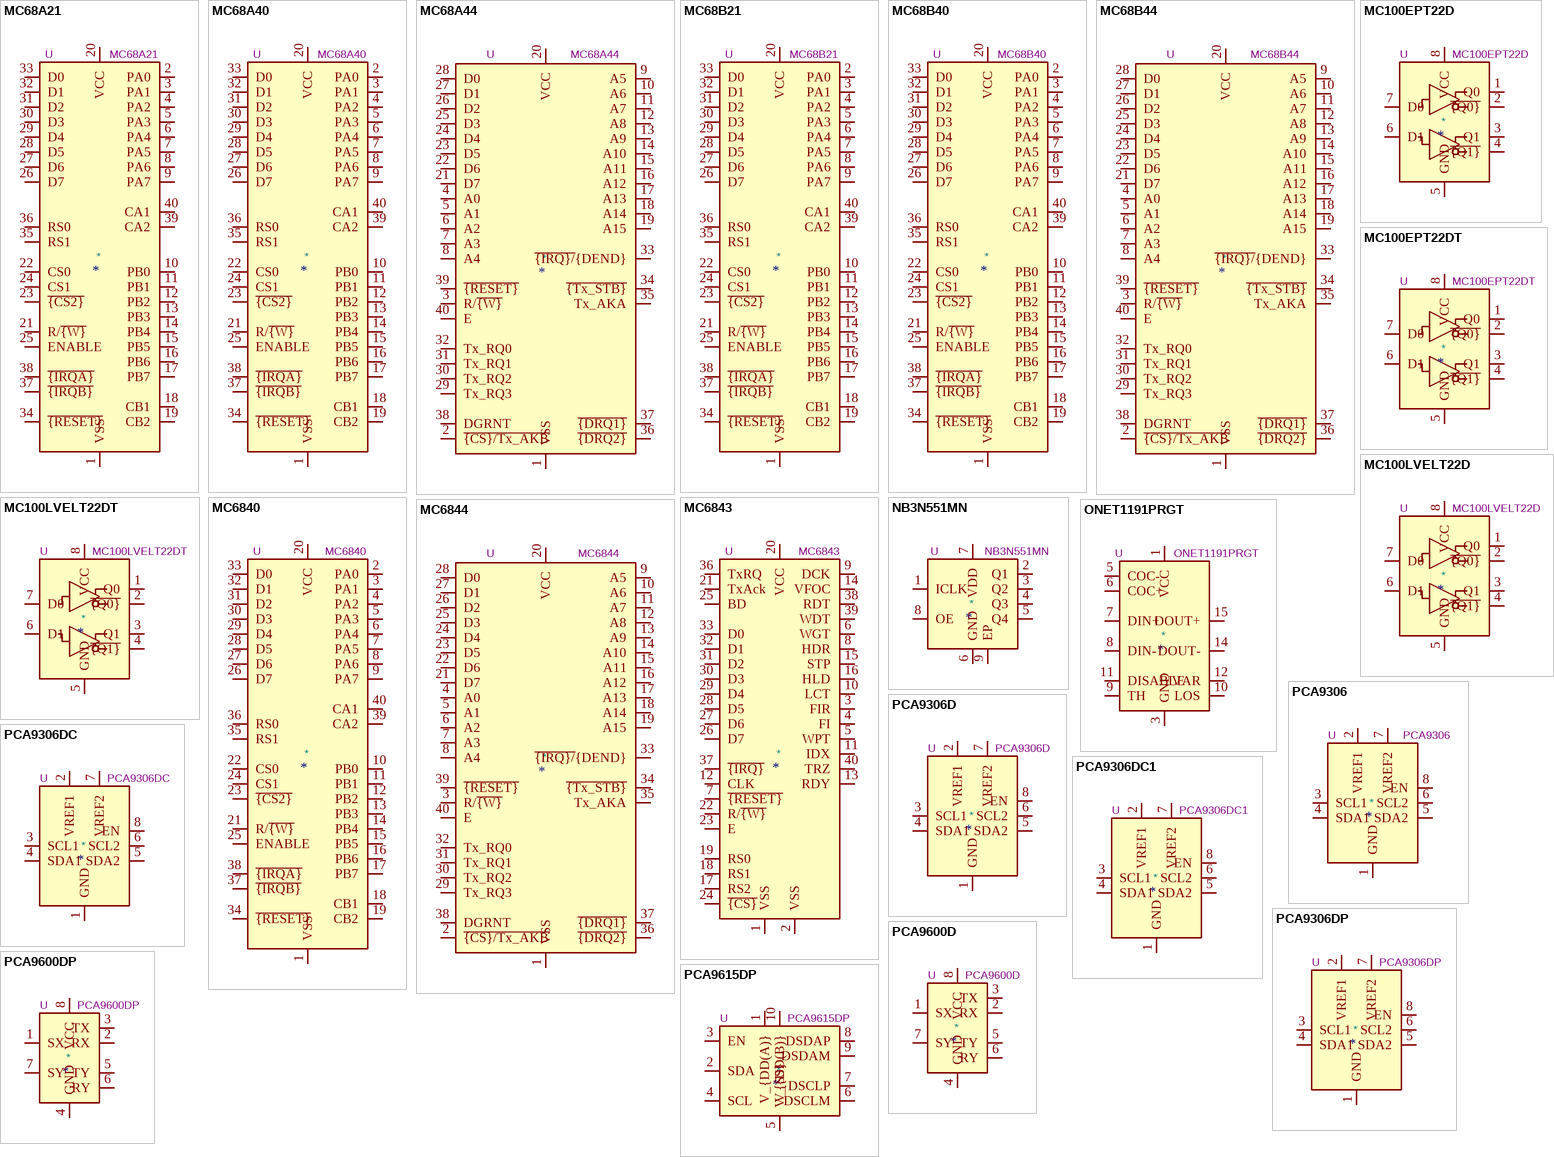
[diagram p3: symbols MC68A21 to PCA9615DP]

## MC68A21
designator *  value MC68A21  Reference: U
ki_keywords: PIA; ki_description: Peripheral Interface Adapter 1.5MHz, DIP-40; ki_fp_filters: DIP*W15.24mm*; Footprint: Package_DIP:DIP-40_W15.24mm; Datasheet: http://pdf.datasheetcatalog.com/datasheet/motorola/6821.pdf
pins: 1 VSS, 2 PA0, 3 PA1, 4 PA2, 5 PA3, 6 PA4, 7 PA5, 8 PA6, 9 PA7, 10 PB0, 11 PB1, 12 PB2, 13 PB3, 14 PB4, 15 PB5, 16 PB6, 17 PB7, 18 CB1, 19 CB2, 20 VCC, 21 R/~{{W}}, 22 CS0, 23 ~{{CS2}}, 24 CS1, 25 ENABLE, 26 D7, 27 D6, 28 D5, 29 D4, 30 D3, 31 D2, 32 D1, 33 D0, 34 ~{{RESET}}, 35 RS1, 36 RS0, 37 ~{{IRQB}}, 38 ~{{IRQA}}, 39 CA2, 40 CA1

## MC68A40
designator *  value MC68A40  Reference: U
ki_keywords: PIA; ki_description: Peripheral Interface Adapter 1.5MHz, DIP-40; ki_fp_filters: DIP*W15.24mm*; Footprint: Package_DIP:DIP-40_W15.24mm; Datasheet: http://pdf.datasheetcatalog.com/datasheet/motorola/MC6840.pdf
pins: 1 VSS, 2 PA0, 3 PA1, 4 PA2, 5 PA3, 6 PA4, 7 PA5, 8 PA6, 9 PA7, 10 PB0, 11 PB1, 12 PB2, 13 PB3, 14 PB4, 15 PB5, 16 PB6, 17 PB7, 18 CB1, 19 CB2, 20 VCC, 21 R/~{{W}}, 22 CS0, 23 ~{{CS2}}, 24 CS1, 25 ENABLE, 26 D7, 27 D6, 28 D5, 29 D4, 30 D3, 31 D2, 32 D1, 33 D0, 34 ~{{RESET}}, 35 RS1, 36 RS0, 37 ~{{IRQB}}, 38 ~{{IRQA}}, 39 CA2, 40 CA1

## MC68A44
designator *  value MC68A44  Reference: U
ki_keywords: Direct Memory Access Controller; ki_description: Direct Memory Access Controller 1.5MHz, DIP-40; ki_fp_filters: DIP*W15.24mm*; Footprint: Package_DIP:DIP-40_W15.24mm; Datasheet: http://pdf.datasheetcatalog.com/datasheets/560/501527_DS.pdf
pins: 1 VSS, 2 ~{{CS}/Tx_AKB}, 3 R/~{{W}}, 4 A0, 5 A1, 6 A2, 7 A3, 8 A4, 9 A5, 10 A6, 11 A7, 12 A8, 13 A9, 14 A10, 15 A11, 16 A12, 17 A13, 18 A14, 19 A15, 20 VCC, 21 D7, 22 D6, 23 D5, 24 D4, 25 D3, 26 D2, 27 D1, 28 D0, 29 Tx_RQ3, 30 Tx_RQ2, 31 Tx_RQ1, 32 Tx_RQ0, 33 ~{{IRQ}/}{DEND}, 34 ~{{Tx_STB}}, 35 Tx_AKA, 36 ~{{DRQ2}}, 37 ~{{DRQ1}}, 38 DGRNT, 39 ~{{RESET}}, 40 E

## MC68B21
designator *  value MC68B21  Reference: U
ki_keywords: PIA; ki_description: Peripheral Interface Adapter 2MHz, DIP-40; ki_fp_filters: DIP*W15.24mm*; Footprint: Package_DIP:DIP-40_W15.24mm; Datasheet: http://pdf.datasheetcatalog.com/datasheet/motorola/6821.pdf
pins: 1 VSS, 2 PA0, 3 PA1, 4 PA2, 5 PA3, 6 PA4, 7 PA5, 8 PA6, 9 PA7, 10 PB0, 11 PB1, 12 PB2, 13 PB3, 14 PB4, 15 PB5, 16 PB6, 17 PB7, 18 CB1, 19 CB2, 20 VCC, 21 R/~{{W}}, 22 CS0, 23 ~{{CS2}}, 24 CS1, 25 ENABLE, 26 D7, 27 D6, 28 D5, 29 D4, 30 D3, 31 D2, 32 D1, 33 D0, 34 ~{{RESET}}, 35 RS1, 36 RS0, 37 ~{{IRQB}}, 38 ~{{IRQA}}, 39 CA2, 40 CA1

## MC68B40
designator *  value MC68B40  Reference: U
ki_keywords: PIA; ki_description: Peripheral Interface Adapter 2MHz, DIP-40; ki_fp_filters: DIP*W15.24mm*; Footprint: Package_DIP:DIP-40_W15.24mm; Datasheet: http://pdf.datasheetcatalog.com/datasheet/motorola/MC6840.pdf
pins: 1 VSS, 2 PA0, 3 PA1, 4 PA2, 5 PA3, 6 PA4, 7 PA5, 8 PA6, 9 PA7, 10 PB0, 11 PB1, 12 PB2, 13 PB3, 14 PB4, 15 PB5, 16 PB6, 17 PB7, 18 CB1, 19 CB2, 20 VCC, 21 R/~{{W}}, 22 CS0, 23 ~{{CS2}}, 24 CS1, 25 ENABLE, 26 D7, 27 D6, 28 D5, 29 D4, 30 D3, 31 D2, 32 D1, 33 D0, 34 ~{{RESET}}, 35 RS1, 36 RS0, 37 ~{{IRQB}}, 38 ~{{IRQA}}, 39 CA2, 40 CA1

## MC68B44
designator *  value MC68B44  Reference: U
ki_keywords: Direct Memory Access Controller; ki_description: Direct Memory Access Controller 2MHz, DIP-40; ki_fp_filters: DIP*W15.24mm*; Footprint: Package_DIP:DIP-40_W15.24mm; Datasheet: http://pdf.datasheetcatalog.com/datasheets/560/501527_DS.pdf
pins: 1 VSS, 2 ~{{CS}/Tx_AKB}, 3 R/~{{W}}, 4 A0, 5 A1, 6 A2, 7 A3, 8 A4, 9 A5, 10 A6, 11 A7, 12 A8, 13 A9, 14 A10, 15 A11, 16 A12, 17 A13, 18 A14, 19 A15, 20 VCC, 21 D7, 22 D6, 23 D5, 24 D4, 25 D3, 26 D2, 27 D1, 28 D0, 29 Tx_RQ3, 30 Tx_RQ2, 31 Tx_RQ1, 32 Tx_RQ0, 33 ~{{IRQ}/}{DEND}, 34 ~{{Tx_STB}}, 35 Tx_AKA, 36 ~{{DRQ2}}, 37 ~{{DRQ1}}, 38 DGRNT, 39 ~{{RESET}}, 40 E

## MC100EPT22D
designator *  value MC100EPT22D  Reference: U
ki_keywords: PECL buffer interface; ki_description: 3.3 V Dual LVTTL/LVCMOS to Differential LVPECL Translator, SOIC-8; ki_fp_filters: SOIC*3.9x4.9mm*P1.27mm*; Footprint: Package_SO:SOIC-8_3.9x4.9mm_P1.27mm; Datasheet: https://www.onsemi.com/pub/Collateral/MC100EPT22-D.PDF
pins: 1 Q0, 2 ~{{Q0}}, 3 Q1, 4 ~{{Q1}}, 5 GND, 6 D1, 7 D0, 8 VCC

## MC100EPT22DT
designator *  value MC100EPT22DT  Reference: U
ki_keywords: PECL buffer interface; ki_description: 3.3 V Dual LVTTL/LVCMOS to Differential LVPECL Translator, TSSOP-8; ki_fp_filters: TSSOP*3x3mm*P0.65mm*; Footprint: Package_SO:TSSOP-8_3x3mm_P0.65mm; Datasheet: https://www.onsemi.com/pub/Collateral/MC100EPT22-D.PDF
pins: 1 Q0, 2 ~{{Q0}}, 3 Q1, 4 ~{{Q1}}, 5 GND, 6 D1, 7 D0, 8 VCC

## MC100LVELT22D
designator *  value MC100LVELT22D  Reference: U
ki_keywords: PECL buffer interface; ki_description: 3.3 V Dual LVTTL/LVCMOS to Differential LVPECL Translator, SOIC-8; ki_fp_filters: SOIC*3.9x4.9mm*P1.27mm*; Footprint: Package_SO:SOIC-8_3.9x4.9mm_P1.27mm; Datasheet: https://www.onsemi.com/pub/Collateral/MC100LVELT22-D.PDF
pins: 1 Q0, 2 ~{{Q0}}, 3 Q1, 4 ~{{Q1}}, 5 GND, 6 D1, 7 D0, 8 VCC

## MC100LVELT22DT
designator *  value MC100LVELT22DT  Reference: U
ki_keywords: PECL buffer interface; ki_description: 3.3 V Dual LVTTL/LVCMOS to Differential LVPECL Translator, TSSOP-8; ki_fp_filters: TSSOP*3x3mm*P0.65mm*; Footprint: Package_SO:TSSOP-8_3x3mm_P0.65mm; Datasheet: https://www.onsemi.com/pub/Collateral/MC100LVELT22-D.PDF
pins: 1 Q0, 2 ~{{Q0}}, 3 Q1, 4 ~{{Q1}}, 5 GND, 6 D1, 7 D0, 8 VCC

## MC6840
designator *  value MC6840  Reference: U
ki_keywords: PIA; ki_description: Peripheral Interface Adapter 1MHz, DIP-40; ki_fp_filters: DIP*W15.24mm*; Footprint: Package_DIP:DIP-40_W15.24mm; Datasheet: http://pdf.datasheetcatalog.com/datasheet/motorola/MC6840.pdf
pins: 1 VSS, 2 PA0, 3 PA1, 4 PA2, 5 PA3, 6 PA4, 7 PA5, 8 PA6, 9 PA7, 10 PB0, 11 PB1, 12 PB2, 13 PB3, 14 PB4, 15 PB5, 16 PB6, 17 PB7, 18 CB1, 19 CB2, 20 VCC, 21 R/~{{W}}, 22 CS0, 23 ~{{CS2}}, 24 CS1, 25 ENABLE, 26 D7, 27 D6, 28 D5, 29 D4, 30 D3, 31 D2, 32 D1, 33 D0, 34 ~{{RESET}}, 35 RS1, 36 RS0, 37 ~{{IRQB}}, 38 ~{{IRQA}}, 39 CA2, 40 CA1

## MC6843
designator *  value MC6843  Reference: U
ki_keywords: FDC; ki_description: Floppy Disc Controller, DIP-40; ki_fp_filters: DIP*W15.24mm*; Footprint: Package_DIP:DIP-40_W15.24mm; Datasheet: http://www.datasheetarchive.com/pdf/download.php?id=355f4f5379c550317997643252fd5cac1bb08e&type=M&query=MC6843P
pins: 1 VSS, 2 VSS, 3 FIR, 4 FI, 5 WPT, 6 WGT, 7 ~{{RESET}}, 8 HDR, 9 DCK, 10 LCT, 11 IDX, 12 CLK, 13 RDY, 14 VFOC, 15 STP, 16 HLD, 17 RS2, 18 RS1, 19 RS0, 20 VCC, 21 TxAck, 22 R/~{{W}}, 23 E, 24 ~{{CS}}, 25 BD, 26 D7, 27 D6, 28 D5, 29 D4, 30 D3, 31 D2, 32 D1, 33 D0, 34 NC hidden, 35 NC hidden, 36 TxRQ, 37 ~{{IRQ}}, 38 RDT, 39 WDT, 40 TRZ

## MC6844
designator *  value MC6844  Reference: U
ki_keywords: Direct Memory Access Controller; ki_description: Direct Memory Access Controller 1MHz, DIP-40; ki_fp_filters: DIP*W15.24mm*; Footprint: Package_DIP:DIP-40_W15.24mm; Datasheet: http://pdf.datasheetcatalog.com/datasheets/560/501527_DS.pdf
pins: 1 VSS, 2 ~{{CS}/Tx_AKB}, 3 R/~{{W}}, 4 A0, 5 A1, 6 A2, 7 A3, 8 A4, 9 A5, 10 A6, 11 A7, 12 A8, 13 A9, 14 A10, 15 A11, 16 A12, 17 A13, 18 A14, 19 A15, 20 VCC, 21 D7, 22 D6, 23 D5, 24 D4, 25 D3, 26 D2, 27 D1, 28 D0, 29 Tx_RQ3, 30 Tx_RQ2, 31 Tx_RQ1, 32 Tx_RQ0, 33 ~{{IRQ}/}{DEND}, 34 ~{{Tx_STB}}, 35 Tx_AKA, 36 ~{{DRQ2}}, 37 ~{{DRQ1}}, 38 DGRNT, 39 ~{{RESET}}, 40 E

## NB3N551MN
designator *  value NB3N551MN  Reference: U
ki_keywords: clock buffer; ki_description: 1:4 Low Skew Clock Buffer, DFN-8; ki_fp_filters: DFN*1EP*2x2mm*P0.5mm*; Footprint: Package_DFN_QFN:DFN-8-1EP_2x2mm_P0.5mm_EP0.9x1.3mm; Datasheet: https://www.onsemi.com/pub/Collateral/NB3N551-D.PDF
pins: 1 ICLK, 2 Q1, 3 Q2, 4 Q3, 5 Q4, 6 GND, 7 VDD, 8 OE, 9 EP

## ONET1191PRGT
designator *  value ONET1191PRGT  Reference: U
ki_keywords: limiting amplifier gigabit ethernet sfp sfp+; ki_description: 11.3-Gbps Limiting Amplifier, VQFN-16; ki_fp_filters: VQFN*1EP*3x3mm*P0.5mm*; Footprint: Package_DFN_QFN:VQFN-16-1EP_3x3mm_P0.5mm_EP1.68x1.68mm; Datasheet: http://www.ti.com/lit/ds/symlink/onet1191p.pdf
pins: 1 VCC, 2 VCC hidden, 3 GND, 4 GND hidden, 5 COC-, 6 COC+, 7 DIN+, 8 DIN-, 9 TH, 10 LOS, 11 DISABLE, 12 VAR, 13 GND hidden, 14 DOUT-, 15 DOUT+, 16 GND hidden, 17 GND hidden

## PCA9306
designator *  value PCA9306  Reference: U
ki_keywords: Dual bidirectional I2C Bus and SMBus voltage level translator; ki_fp_filters: SSOP*2.95x2.8mm*P0.65mm* VSSOP*2.3x2mm*P0.5mm* X2SON*1.4x1mm*P0.35mm*; Datasheet: http://www.ti.com/lit/ds/symlink/pca9306.pdf; ki_description: Dual bidirectional I2C Bus and SMBus voltage level translator
pins: 1 GND, 2 VREF1, 3 SCL1, 4 SDA1, 5 SDA2, 6 SCL2, 7 VREF2, 8 EN

## PCA9306D
designator *  value PCA9306D  Reference: U
ki_keywords: I2C SMBus; ki_description: Dual bidirectional I2C Bus and SMBus voltage level translator, SO-8; ki_fp_filters: SO*3.9x4.9mm*P1.27mm*; Footprint: Package_SO:SO-8_3.9x4.9mm_P1.27mm; Datasheet: https://www.nxp.com/docs/en/data-sheet/PCA9306.pdf
pins: 1 GND, 2 VREF1, 3 SCL1, 4 SDA1, 5 SDA2, 6 SCL2, 7 VREF2, 8 EN

## PCA9306DC
designator *  value PCA9306DC  Reference: U
ki_keywords: I2C SMBus; ki_description: Dual bidirectional I2C Bus and SMBus voltage level translator, VSSOP-8, Discontinued; ki_fp_filters: VSSOP*2.3x2mm*P0.5mm*; Footprint: Package_SO:VSSOP-8_2.3x2mm_P0.5mm; Datasheet: https://www.nxp.com/docs/en/data-sheet/PCA9306.pdf
pins: 1 GND, 2 VREF1, 3 SCL1, 4 SDA1, 5 SDA2, 6 SCL2, 7 VREF2, 8 EN

## PCA9306DC1
designator *  value PCA9306DC1  Reference: U
ki_keywords: I2C SMBus; ki_description: Dual bidirectional I2C Bus and SMBus voltage level translator, VSSOP-8; ki_fp_filters: VSSOP*2.3x2mm*P0.5mm*; Footprint: Package_SO:VSSOP-8_2.3x2mm_P0.5mm; Datasheet: https://www.nxp.com/docs/en/data-sheet/PCA9306.pdf
pins: 1 GND, 2 VREF1, 3 SCL1, 4 SDA1, 5 SDA2, 6 SCL2, 7 VREF2, 8 EN

## PCA9306DP
designator *  value PCA9306DP  Reference: U
ki_keywords: I2C SMBus; ki_description: Dual bidirectional I2C Bus and SMBus voltage level translator, TSSOP-8; ki_fp_filters: TSSOP*3x3mm*P0.65mm*; Footprint: Package_SO:TSSOP-8_3x3mm_P0.65mm; Datasheet: https://www.nxp.com/docs/en/data-sheet/PCA9306.pdf
pins: 1 GND, 2 VREF1, 3 SCL1, 4 SDA1, 5 SDA2, 6 SCL2, 7 VREF2, 8 EN

## PCA9600D
designator *  value PCA9600D  Reference: U
ki_keywords: I2C buffer; ki_description: Dual bidirectional bus buffer, SO-8; ki_fp_filters: SO*3.9x4.9mm*P1.27mm*; Footprint: Package_SO:SO-8_3.9x4.9mm_P1.27mm; Datasheet: https://www.nxp.com/docs/en/data-sheet/PCA9600.pdf
pins: 1 SX, 2 RX, 3 TX, 4 GND, 5 TY, 6 RY, 7 SY, 8 VCC

## PCA9600DP
designator *  value PCA9600DP  Reference: U
ki_keywords: I2C buffer; ki_description: Dual bidirectional bus buffer, TSSOP-8; ki_fp_filters: TSSOP*3x3mm*P0.65mm*; Footprint: Package_SO:TSSOP-8_3x3mm_P0.65mm; Datasheet: https://www.nxp.com/docs/en/data-sheet/PCA9600.pdf
pins: 1 SX, 2 RX, 3 TX, 4 GND, 5 TY, 6 RY, 7 SY, 8 VCC

## PCA9615DP
designator *  value PCA9615DP  Reference: U
ki_keywords: Differential SMBus/I2C buffer; ki_description: Dual bidirectional hot-swap multipoint bus buffer, SO-8; ki_fp_filters: TSSOP*3x3mm*P0.5mm*; Footprint: Package_SO:TSSOP-10_3x3mm_P0.5mm; Datasheet: https://www.nxp.com/docs/en/data-sheet/PCA9615.pdf
pins: 1 V_{DD(A)}, 2 SDA, 3 EN, 4 SCL, 5 V_{SS}, 6 DSCLM, 7 DSCLP, 8 DSDAP, 9 DSDAM, 10 V_{DD(B)}

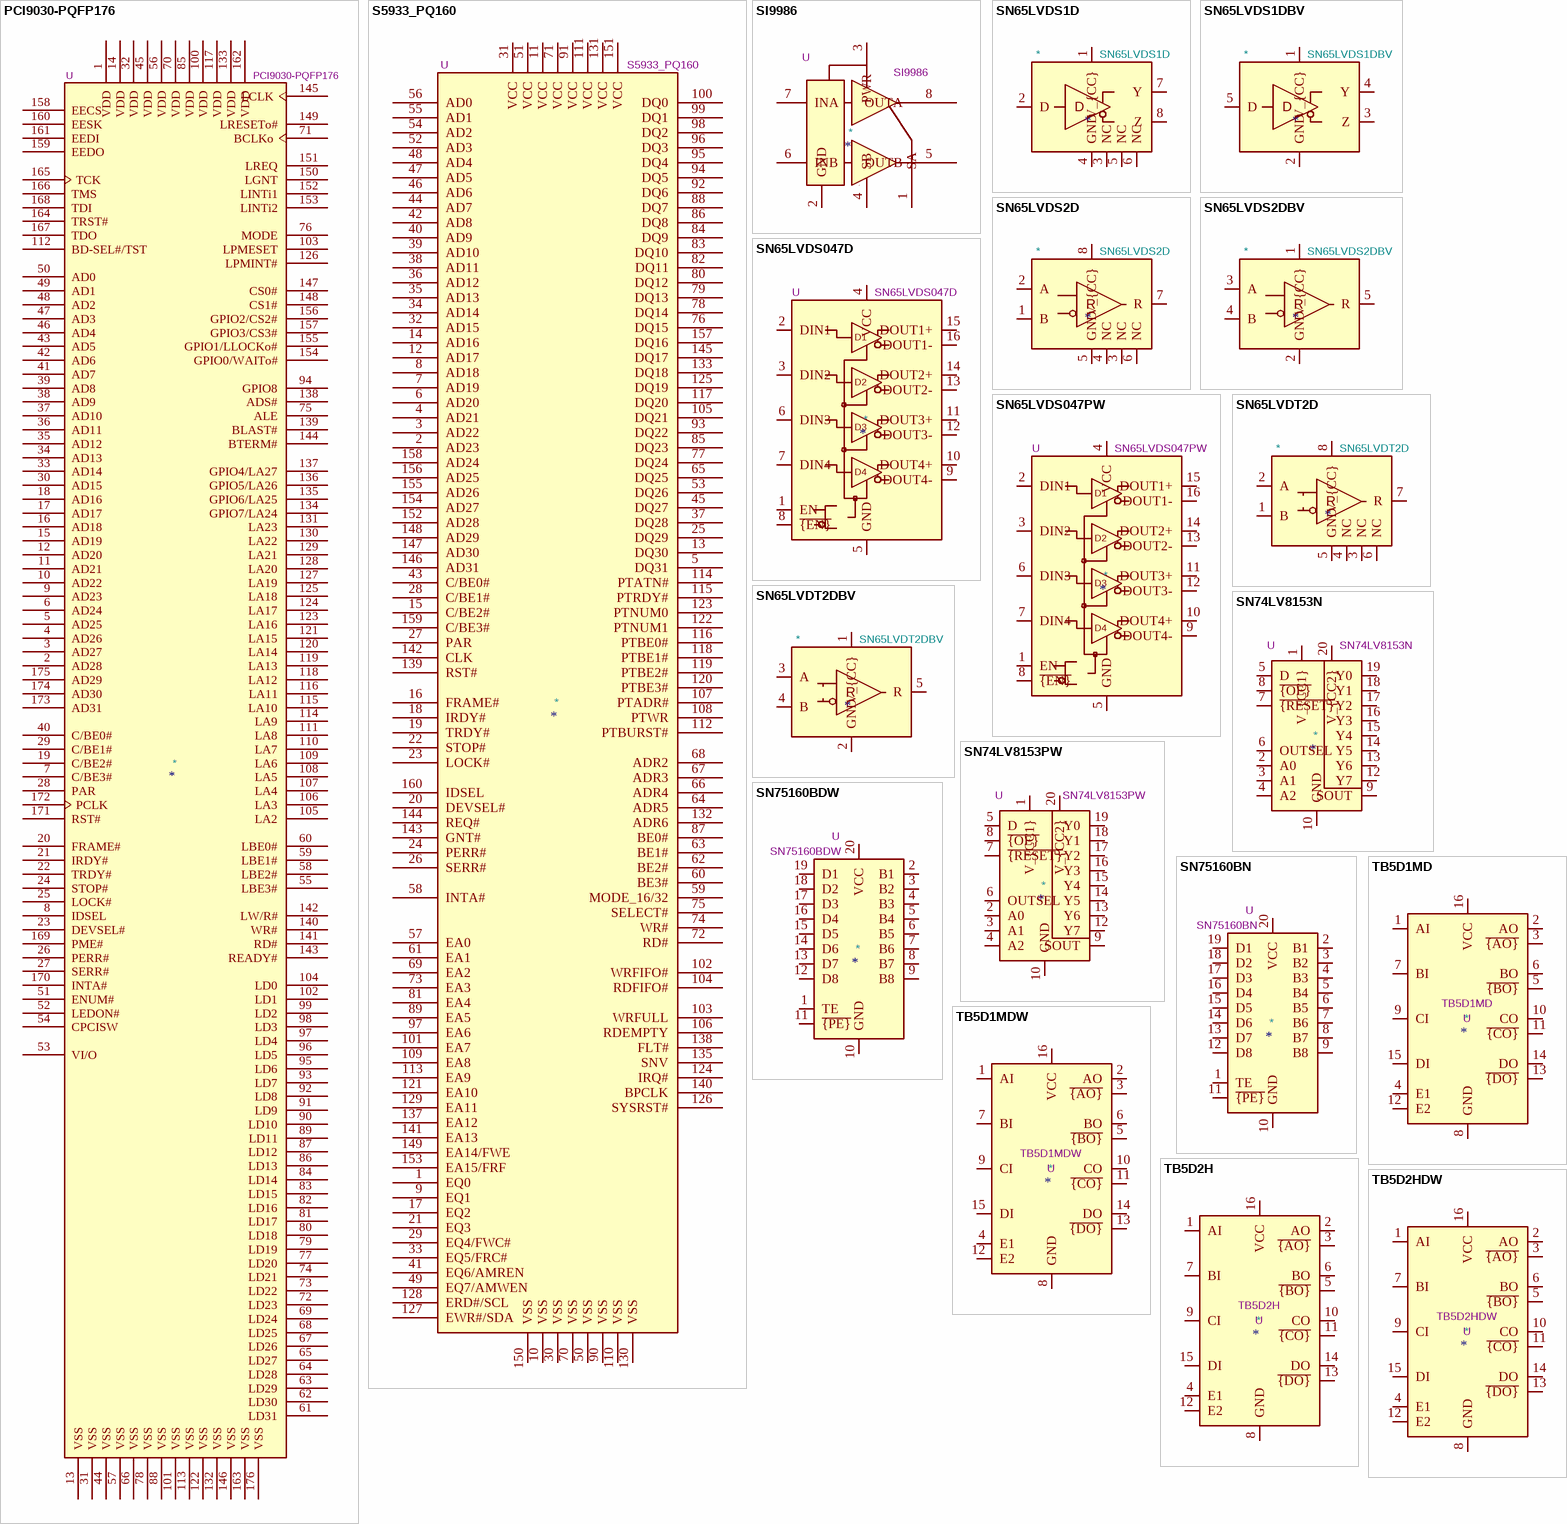
[diagram p4: symbols PCI9030-PQFP176 to TB5D2HDW]

## PCI9030-PQFP176
designator *  value PCI9030-PQFP176  Reference: U
ki_keywords: PCI; ki_description: PCI SMARTarget I/O Accelerator; ki_fp_filters: LQFP*24x24mm*P0.5mm*; Footprint: Package_QFP:LQFP-176_24x24mm_P0.5mm; Datasheet: http://lhcb-online.web.cern.ch/lhcb-online/ecs/ccpc/docs/plc-9030-databook.pdf
pins: 1 VDD, 2 AD28, 3 AD27, 4 AD26, 5 AD25, 6 AD24, 7 C/BE3#, 8 IDSEL, 9 AD23, 10 AD22, 11 AD21, 12 AD20, 13 VSS, 14 VDD, 15 AD19, 16 AD18, 17 AD17, 18 AD16, 19 C/BE2#, 20 FRAME#, 21 IRDY#, 22 TRDY#, 23 DEVSEL#, 24 STOP#, 25 LOCK#, 26 PERR#, 27 SERR#, 28 PAR, 29 C/BE1#, 30 AD15, 31 VSS, 32 VDD, 33 AD14, 34 AD13, 35 AD12, 36 AD11, 37 AD10, 38 AD9, 39 AD8, 40 C/BE0#, 41 AD7, 42 AD6, 43 AD5, 44 VSS, 45 VDD, 46 AD4, 47 AD3, 48 AD2, 49 AD1, 50 AD0, 51 ENUM#, 52 LEDON#, 53 VI/O, 54 CPCISW, 55 LBE3#, 56 VDD, 57 VSS, 58 LBE2#, 59 LBE1#, 60 LBE0#, 61 LD31, 62 LD30, 63 LD29, 64 LD28, 65 LD27, 66 VSS, 67 LD26, 68 LD25, 69 LD24, 70 VDD, 71 BCLKo, 72 LD23, 73 LD22, 74 LD21, 75 ALE, 76 MODE, 77 LD20, 78 VSS, 79 LD19, 80 LD18, 81 LD17, 82 LD16, 83 LD15, 84 LD14, 85 VDD, 86 LD13, 87 LD12, 88 VSS, 89 LD11, 90 LD10, 91 LD9, 92 LD8, 93 LD7, 94 GPIO8, 95 LD6, 96 LD5, 97 LD4, 98 LD3, 99 LD2, 100 VDD, 101 VSS, 102 LD1, 103 LPMESET, 104 LD0, 105 LA2, 106 LA3, 107 LA4, 108 LA5, 109 LA6, 110 LA7, 111 LA8, 112 BD-SEL#/TST, 113 VSS, 114 LA9, 115 LA10, 116 LA11, 117 VDD, 118 LA12, 119 LA13, 120 LA14, 121 LA15, 122 VSS, 123 LA16, 124 LA17, 125 LA18, 126 LPMINT#, 127 LA19, 128 LA20, 129 LA21, 130 LA22, 131 LA23, 132 VSS, 133 VDD, 134 GPIO7/LA24, 135 GPIO6/LA25, 136 GPIO5/LA26, 137 GPIO4/LA27, 138 ADS#, 139 BLAST#, 140 WR#, 141 RD#, 142 LW/R#, 143 READY#, 144 BTERM#, 145 LCLK, 146 VSS, 147 CS0#, 148 CS1#, 149 LRESETo#, 150 LGNT, 151 LREQ, 152 LINTi1, 153 LINTi2, 154 GPIO0/WAITo#, 155 GPIO1/LLOCKo#, 156 GPIO2/CS2#, 157 GPIO3/CS3#, 158 EECS, 159 EEDO, 160 EESK, 161 EEDI, 162 VDD, 163 VSS, 164 TRST#, 165 TCK, 166 TMS, 167 TDO, 168 TDI, 169 PME#, 170 INTA#, 171 RST#, 172 PCLK, 173 AD31, 174 AD30, 175 AD29, 176 VSS

## S5933_PQ160
designator *  value S5933_PQ160  Reference: U
ki_keywords: PCI 2.1 Compliant Master/Slave Device; ki_description: PCI 2.1 Compliant Master/Slave Device, PQFP-160; ki_fp_filters: PQFP*28x28mm*P0.65mm*; Footprint: Package_QFP:PQFP-160_28x28mm_P0.65mm; Datasheet: http://datasheet.datasheetarchive.com/originals/distributors/Datasheets-35/DSA-684194.pdf
pins: 1 EQ0, 2 AD23, 3 AD22, 4 AD21, 5 DQ31, 6 AD20, 7 AD19, 8 AD18, 9 EQ1, 10 VSS, 11 VCC, 12 AD17, 13 DQ30, 14 AD16, 15 C/BE2#, 16 FRAME#, 17 EQ2, 18 IRDY#, 19 TRDY#, 20 DEVSEL#, 21 EQ3, 22 STOP#, 23 LOCK#, 24 PERR#, 25 DQ29, 26 SERR#, 27 PAR, 28 C/BE1#, 29 EQ4/FWC#, 30 VSS, 31 VCC, 32 AD15, 33 EQ5/FRC#, 34 AD14, 35 AD13, 36 AD12, 37 DQ28, 38 AD11, 39 AD10, 40 AD9, 41 EQ6/AMREN, 42 AD8, 43 C/BE0#, 44 AD7, 45 DQ27, 46 AD6, 47 AD5, 48 AD4, 49 EQ7/AMWEN, 50 VSS, 51 VCC, 52 AD3, 53 DQ26, 54 AD2, 55 AD1, 56 AD0, 57 EA0, 58 INTA#, 59 MODE_16/32, 60 BE3#, 61 EA1, 62 BE2#, 63 BE1#, 64 ADR5, 65 DQ25, 66 ADR4, 67 ADR3, 68 ADR2, 69 EA2, 70 VSS, 71 VCC, 72 RD#, 73 EA3, 74 WR#, 75 SELECT#, 76 DQ15, 77 DQ24, 78 DQ14, 79 DQ13, 80 DQ12, 81 EA4, 82 DQ11, 83 DQ10, 84 DQ9, 85 DQ23, 86 DQ8, 87 BE0#, 88 DQ7, 89 EA5, 90 VSS, 91 VCC, 92 DQ6, 93 DQ22, 94 DQ5, 95 DQ4, 96 DQ3, 97 EA6, 98 DQ2, 99 DQ1, 100 DQ0, 101 EA7, 102 WRFIFO#, 103 WRFULL, 104 RDFIFO#, 105 DQ21, 106 RDEMPTY, 107 PTADR#, 108 PTWR, 109 EA8, 110 VSS, 111 VCC, 112 PTBURST#, 113 EA9, 114 PTATN#, 115 PTRDY#, 116 PTBE0#, 117 DQ20, 118 PTBE1#, 119 PTBE2#, 120 PTBE3#, 121 EA10, 122 PTNUM1, 123 PTNUM0, 124 IRQ#, 125 DQ19, 126 SYSRST#, 127 EWR#/SDA, 128 ERD#/SCL, 129 EA11, 130 VSS, 131 VCC, 132 ADR6, 133 DQ18, 135 SNV, 137 EA12, 138 FLT#, 139 RST#, 140 BPCLK, 141 EA13, 142 CLK, 143 GNT#, 144 REQ#, 145 DQ17, 146 AD31, 147 AD30, 148 AD29, 149 EA14/FWE, 150 VSS, 151 VCC, 152 AD28, 153 EA15/FRF, 154 AD27, 155 AD26, 156 AD25, 157 DQ16, 158 AD24, 159 C/BE3#, 160 IDSEL

## SI9986
designator *  value SI9986  Reference: U
ki_keywords: integrated, buffered H-bridge; ki_description: Integrated, buffered H-bridge with TTL compatible inputs, 1A, 12V, SOIC-8; ki_fp_filters: SOIC*3.9x4.9mm*P1.27mm*; Footprint: Package_SO:SOIC-8_3.9x4.9mm_P1.27mm; Datasheet: http://www.vishay.com/docs/70007/si9986.pdf
pins: 1 SA, 2 GND, 3 PWR, 4 SB, 5 OUTB, 6 INB, 7 INA, 8 OUTA

## SN65LVDS1D
designator *  value SN65LVDS1D
ki_keywords: LVDS Driver TI; ki_description: High-Speed Differential Line Driver, 630Mbps, SOIC-8; ki_fp_filters: *SOIC*3.9x4.9mm*P1.27mm*; Footprint: Package_SO:SOIC-8_3.9x4.9mm_P1.27mm; Supplier: http://www.ti.com/lit/ds/symlink/sn65lvds1.pdf
footprint SOIC-8_3.9x4.9mm_P1.27mm
pins: 1 V_{CC}, 2 D, 3 NC, 4 GND, 5 NC, 6 NC, 7 Y, 8 Z

## SN65LVDS1DBV
designator *  value SN65LVDS1DBV
ki_keywords: LVDS Driver TI; ki_description: High-Speed Differential Line Driver, 630Mbps, SOT-23-5; ki_fp_filters: SOT?23*; Footprint: Package_TO_SOT_SMD:SOT-23-5; Supplier: http://www.ti.com/lit/ds/symlink/sn65lvds1.pdf
footprint SOT-23-5
pins: 1 V_{CC}, 2 GND, 3 Z, 4 Y, 5 D

## SN65LVDS2D
designator *  value SN65LVDS2D
ki_keywords: LVDS Receiver TI; ki_description: High-Speed Differential Line Receiver, 630Mbps, SOIC-8; ki_fp_filters: *SOIC*3.9x4.9mm*P1.27mm*; Footprint: Package_SO:SOIC-8_3.9x4.9mm_P1.27mm; Supplier: https://www.ti.com/lit/ds/symlink/sn65lvds2.pdf
footprint SOIC-8_3.9x4.9mm_P1.27mm
pins: 1 B, 2 A, 3 NC, 4 NC, 5 GND, 6 NC, 7 R, 8 V_{CC}

## SN65LVDS2DBV
designator *  value SN65LVDS2DBV
ki_keywords: LVDS Receiver TI; ki_description: High-Speed Differential Line Receiver, 630Mbps, SOT-23-5; ki_fp_filters: SOT?23*; Footprint: Package_TO_SOT_SMD:SOT-23-5; Supplier: https://www.ti.com/lit/ds/symlink/sn65lvds2.pdf
footprint SOT-23-5
pins: 1 V_{CC}, 2 GND, 3 A, 4 B, 5 R

## SN65LVDS047D
designator *  value SN65LVDS047D  Reference: U
ki_keywords: Quad LVDS Driver; ki_description: Quad LVDS Differential Line Driver, 400Mbps, SOIC-16; ki_fp_filters: SOIC*3.9x9.9mm*P1.27mm*; Footprint: Package_SO:SOIC-16_3.9x9.9mm_P1.27mm; Datasheet: http://www.ti.com/lit/ds/symlink/sn65lvds047.pdf
pins: 1 EN, 2 DIN1, 3 DIN2, 4 VCC, 5 GND, 6 DIN3, 7 DIN4, 8 ~{{EN}}, 9 DOUT4-, 10 DOUT4+, 11 DOUT3+, 12 DOUT3-, 13 DOUT2-, 14 DOUT2+, 15 DOUT1+, 16 DOUT1-
text: D1; D2; D3; D4

## SN65LVDS047PW
designator *  value SN65LVDS047PW  Reference: U
ki_keywords: Quad LVDS Driver; ki_description: Quad LVDS Differential Line Driver, 400Mbps, TSSOP-16; ki_fp_filters: TSSOP*4.4x5mm*P0.65mm*; Footprint: Package_SO:TSSOP-16_4.4x5mm_P0.65mm; Datasheet: http://www.ti.com/lit/ds/symlink/sn65lvds047.pdf
pins: 1 EN, 2 DIN1, 3 DIN2, 4 VCC, 5 GND, 6 DIN3, 7 DIN4, 8 ~{{EN}}, 9 DOUT4-, 10 DOUT4+, 11 DOUT3+, 12 DOUT3-, 13 DOUT2-, 14 DOUT2+, 15 DOUT1+, 16 DOUT1-
text: D1; D2; D3; D4